# Altium integrated library Altera FLEX 10K.IntLib: 292 symbols (part 14 of 37)
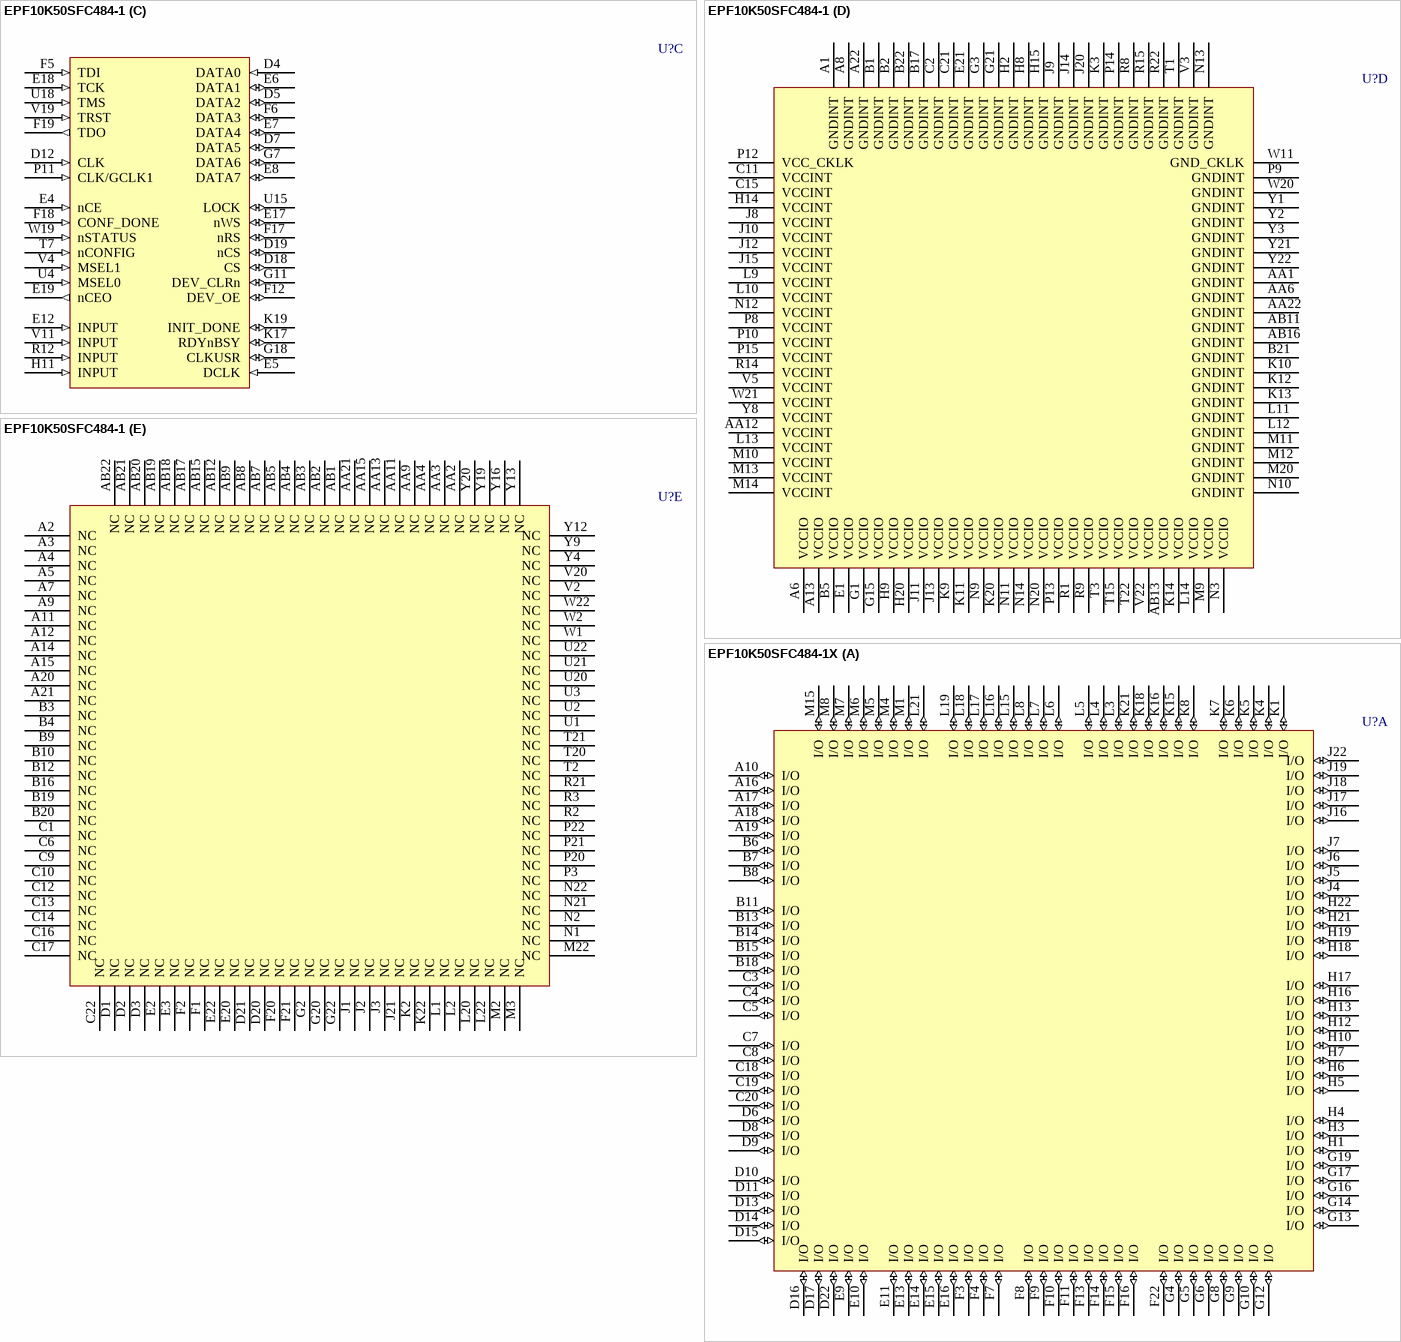
[diagram p411: symbols EPF10K50SFC484-1 to EPF10K50SFC484-1X]

## EPF10K50SFC484-1
designator U?
FLEX EPF10K50S 2.5V Embedded PLD, 254 User IO Pins, 484-Pin FBGA, Speed Grade 1, Commercial Grade; Published: 17-Jul-2002; LatestRevisionDate: 13-Apr-2006; LatestRevisionNote: IPC-7351 Footprint Added.; DatasheetVersion: ver4.2, Jan-2003; PackageVersion: ver16.0, Dec-2009; PackageReference: FBGA484; Publisher: Altium Limited; PackageDescription: 484-Ball FineLine Ball Grid Array (FBGA484) - Flip Chip; Code_JEDEC: MS-034-AAJ-1; Code_IPC: BGA100P22X22-484; ComponentLink1Description: Manufacturer Link; ComponentLink1URL: http://www.altera.com/products/devices/flex10k/f10-index.html; ComponentLink2Description: Datasheet; ComponentLink2URL: http://www.altera.com/literature/ds/dsf10ke.pdf
footprint FBGA484 (BGA, 484-Leads, Body 23x23mm, Pitch 1mm)
3D model EPF10K50S-FBGA484 (484-Ball FineLine Ball Grid Array (FBGA484) - Flip Chip)
part A pins: A10 I/O (io), A16 I/O (io), A17 I/O (io), A18 I/O (io), A19 I/O (io), B6 I/O (io), B7 I/O (io), B8 I/O (io), B11 I/O (io), B13 I/O (io), B14 I/O (io), B15 I/O (io), B18 I/O (io), C3 I/O (io), C4 I/O (io), C5 I/O (io), C7 I/O (io), C8 I/O (io), C18 I/O (io), C19 I/O (io), C20 I/O (io), D6 I/O (io), D8 I/O (io), D9 I/O (io), D10 I/O (io), D11 I/O (io), D13 I/O (io), D14 I/O (io), D15 I/O (io), D16 I/O (io), D17 I/O (io), D22 I/O (io), E9 I/O (io), E10 I/O (io), E11 I/O (io), E13 I/O (io), E14 I/O (io), E15 I/O (io), E16 I/O (io), F3 I/O (io), F4 I/O (io), F7 I/O (io), F8 I/O (io), F9 I/O (io), F10 I/O (io), F11 I/O (io), F13 I/O (io), F14 I/O (io), F15 I/O (io), F16 I/O (io), F22 I/O (io), G4 I/O (io), G5 I/O (io), G6 I/O (io), G8 I/O (io), G9 I/O (io), G10 I/O (io), G12 I/O (io), G13 I/O (io), G14 I/O (io), G16 I/O (io), G17 I/O (io), G19 I/O (io), H1 I/O (io), H3 I/O (io), H4 I/O (io), H5 I/O (io), H6 I/O (io), H7 I/O (io), H10 I/O (io), H12 I/O (io), H13 I/O (io), H16 I/O (io), H17 I/O (io), H18 I/O (io), H19 I/O (io), H21 I/O (io), H22 I/O (io), J4 I/O (io), J5 I/O (io), J6 I/O (io), J7 I/O (io), J16 I/O (io), J17 I/O (io), J18 I/O (io), J19 I/O (io), J22 I/O (io), K1 I/O (io), K4 I/O (io), K5 I/O (io), K6 I/O (io), K7 I/O (io), K8 I/O (io), K15 I/O (io), K16 I/O (io), K18 I/O (io), K21 I/O (io), L3 I/O (io), L4 I/O (io), L5 I/O (io), L6 I/O (io), L7 I/O (io), L8 I/O (io), L15 I/O (io), L16 I/O (io), L17 I/O (io), L18 I/O (io), L19 I/O (io), L21 I/O (io), M1 I/O (io), M4 I/O (io), M5 I/O (io), M6 I/O (io), M7 I/O (io), M8 I/O (io), M15 I/O (io)
part B pins: AA5 I/O (io), AA7 I/O (io), AA8 I/O (io), AA10 I/O (io), AA14 I/O (io), AA16 I/O (io), AA17 I/O (io), AA18 I/O (io), AA19 I/O (io), AA20 I/O (io), AB6 I/O (io), AB10 I/O (io), AB14 I/O (io), M16 I/O (io), M17 I/O (io), M18 I/O (io), M19 I/O (io), M21 I/O (io), N4 I/O (io), N5 I/O (io), N6 I/O (io), N7 I/O (io), N8 I/O (io), N15 I/O (io), N16 I/O (io), N17 I/O (io), N18 I/O (io), N19 I/O (io), P1 I/O (io), P2 I/O (io), P4 I/O (io), P5 I/O (io), P6 I/O (io), P7 I/O (io), P16 I/O (io), P17 I/O (io), P18 I/O (io), P19 I/O (io), R4 I/O (io), R5 I/O (io), R6 I/O (io), R7 I/O (io), R10 I/O (io), R11 I/O (io), R13 I/O (io), R16 I/O (io), R17 I/O (io), R18 I/O (io), R19 I/O (io), R20 I/O (io), T4 I/O (io), T5 I/O (io), T6 I/O (io), T8 I/O (io), T9 I/O (io), T10 I/O (io), T11 I/O (io), T12 I/O (io), T13 I/O (io), T14 I/O (io), T16 I/O (io), T17 I/O (io), T18 I/O (io), T19 I/O (io), U5 I/O (io), U6 I/O (io), U7 I/O (io), U8 I/O (io), U9 I/O (io), U10 I/O (io), U11 I/O (io), U12 I/O (io), U13 I/O (io), U14 I/O (io), U16 I/O (io), U17 I/O (io), U19 I/O (io), V1 I/O (io), V6 I/O (io), V7 I/O (io), V8 I/O (io), V9 I/O (io), V10 I/O (io), V12 I/O (io), V13 I/O (io), V14 I/O (io), V15 I/O (io), V16 I/O (io), V17 I/O (io), V18 I/O (io), V21 I/O (io), W3 I/O (io), W4 I/O (io), W5 I/O (io), W6 I/O (io), W7 I/O (io), W8 I/O (io), W9 I/O (io), W10 I/O (io), W12 I/O (io), W13 I/O (io), W14 I/O (io), W15 I/O (io), W16 I/O (io), W17 I/O (io), W18 I/O (io), Y5 I/O (io), Y6 I/O (io), Y7 I/O (io), Y10 I/O (io), Y11 I/O (io), Y14 I/O (io), Y15 I/O (io), Y17 I/O (io), Y18 I/O (io)
part C pins: D4 DATA0 (in), D5 DATA2 (io), D7 DATA5 (io), D12 CLK (in), D18 CS (io), D19 nCS (io), E4 nCE (in), E5 DCLK (in), E6 DATA1 (io), E7 DATA4 (io), E8 DATA7 (io), E12 INPUT (in), E17 nWS (io), E18 TCK (in), E19 nCEO (out), F5 TDI (in), F6 DATA3 (io), F12 DEV_OE (io), F17 nRS (io), F18 CONF_DONE (in), F19 TDO (out), G7 DATA6 (io), G11 DEV_CLRn (io), G18 CLKUSR (io), H11 INPUT (in), K17 RDYnBSY (io), K19 INIT_DONE (io), P11 CLK/GCLK1 (in), R12 INPUT (in), T7 nCONFIG (in), U4 MSEL0 (in), U15 LOCK (io), U18 TMS (in), V4 MSEL1 (in), V11 INPUT (in), V19 TRST (in), W19 nSTATUS (in)
part D pins: A1 GNDINT (power), A6 VCCIO (power), A8 GNDINT (power), A13 VCCIO (power), A22 GNDINT (power), AA1 GNDINT (power), AA6 GNDINT (power), AA12 VCCINT (power), AA22 GNDINT (power), AB11 GNDINT (power), AB13 VCCIO (power), AB16 GNDINT (power), B1 GNDINT (power), B2 GNDINT (power), B5 VCCIO (power), B17 GNDINT (power), B21 GNDINT (power), B22 GNDINT (power), C2 GNDINT (power), C11 VCCINT (power), C15 VCCINT (power), C21 GNDINT (power), E1 VCCIO (power), E21 GNDINT (power), G1 VCCIO (power), G3 GNDINT (power), G15 VCCIO (power), G21 GNDINT (power), H2 GNDINT (power), H8 GNDINT (power), H9 VCCIO (power), H14 VCCINT (power), H15 GNDINT (power), H20 VCCIO (power), J8 VCCINT (power), J9 GNDINT (power), J10 VCCINT (power), J11 VCCIO (power), J12 VCCINT (power), J13 VCCIO (power), J14 GNDINT (power), J15 VCCINT (power), J20 GNDINT (power), K3 GNDINT (power), K9 VCCIO (power), K10 GNDINT (power), K11 VCCIO (power), K12 GNDINT (power), K13 GNDINT (power), K14 VCCIO (power), K20 VCCIO (power), L9 VCCINT (power), L10 VCCINT (power), L11 GNDINT (power), L12 GNDINT (power), L13 VCCINT (power), L14 VCCIO (power), M9 VCCIO (power), M10 VCCINT (power), M11 GNDINT (power), M12 GNDINT (power), M13 VCCINT (power), M14 VCCINT (power), M20 GNDINT (power), N3 VCCIO (power), N9 VCCIO (power), N10 GNDINT (power), N11 VCCIO (power), N12 VCCINT (power), N13 GNDINT (power), N14 VCCIO (power), N20 VCCIO (power), P8 VCCINT (power), P9 GNDINT (power), P10 VCCINT (power), P12 VCC_CKLK (power), P13 VCCIO (power), P14 GNDINT (power), P15 VCCINT (power), R1 VCCIO (power), R8 GNDINT (power), R9 VCCIO (power), R14 VCCINT (power), R15 GNDINT (power), R22 GNDINT (power), T1 GNDINT (power), T3 VCCIO (power), T15 VCCIO (power), T22 VCCIO (power), V3 GNDINT (power), V5 VCCINT (power), V22 VCCIO (power), W11 GND_CKLK (power), W20 GNDINT (power), W21 VCCINT (power), Y1 GNDINT (power), Y2 GNDINT (power), Y3 GNDINT (power), Y8 VCCINT (power), Y21 GNDINT (power), Y22 GNDINT (power)
part E pins: A2 NC, A3 NC, A4 NC, A5 NC, A7 NC, A9 NC, A11 NC, A12 NC, A14 NC, A15 NC, A20 NC, A21 NC, AA2 NC, AA3 NC, AA4 NC, AA9 NC, AA11 NC, AA13 NC, AA15 NC, AA21 NC, AB1 NC, AB2 NC, AB3 NC, AB4 NC, AB5 NC, AB7 NC, AB8 NC, AB9 NC, AB12 NC, AB15 NC, AB17 NC, AB18 NC, AB19 NC, AB20 NC, AB21 NC, AB22 NC, B3 NC, B4 NC, B9 NC, B10 NC, B12 NC, B16 NC, B19 NC, B20 NC, C1 NC, C6 NC, C9 NC, C10 NC, C12 NC, C13 NC, C14 NC, C16 NC, C17 NC, C22 NC, D1 NC, D2 NC, D3 NC, D20 NC, D21 NC, E2 NC, E3 NC, E20 NC, E22 NC, F1 NC, F2 NC, F20 NC, F21 NC, G2 NC, G20 NC, G22 NC, J1 NC, J2 NC, J3 NC, J21 NC, K2 NC, K22 NC, L1 NC, L2 NC, L20 NC, L22 NC, M2 NC, M3 NC, M22 NC, N1 NC, N2 NC, N21 NC, N22 NC, P3 NC, P20 NC, P21 NC, P22 NC, R2 NC, R3 NC, R21 NC, T2 NC, T20 NC, T21 NC, U1 NC, U2 NC, U3 NC, U20 NC, U21 NC, U22 NC, V2 NC, V20 NC, W1 NC, W2 NC, W22 NC, Y4 NC, Y9 NC, Y12 NC, Y13 NC, Y16 NC, Y19 NC, Y20 NC

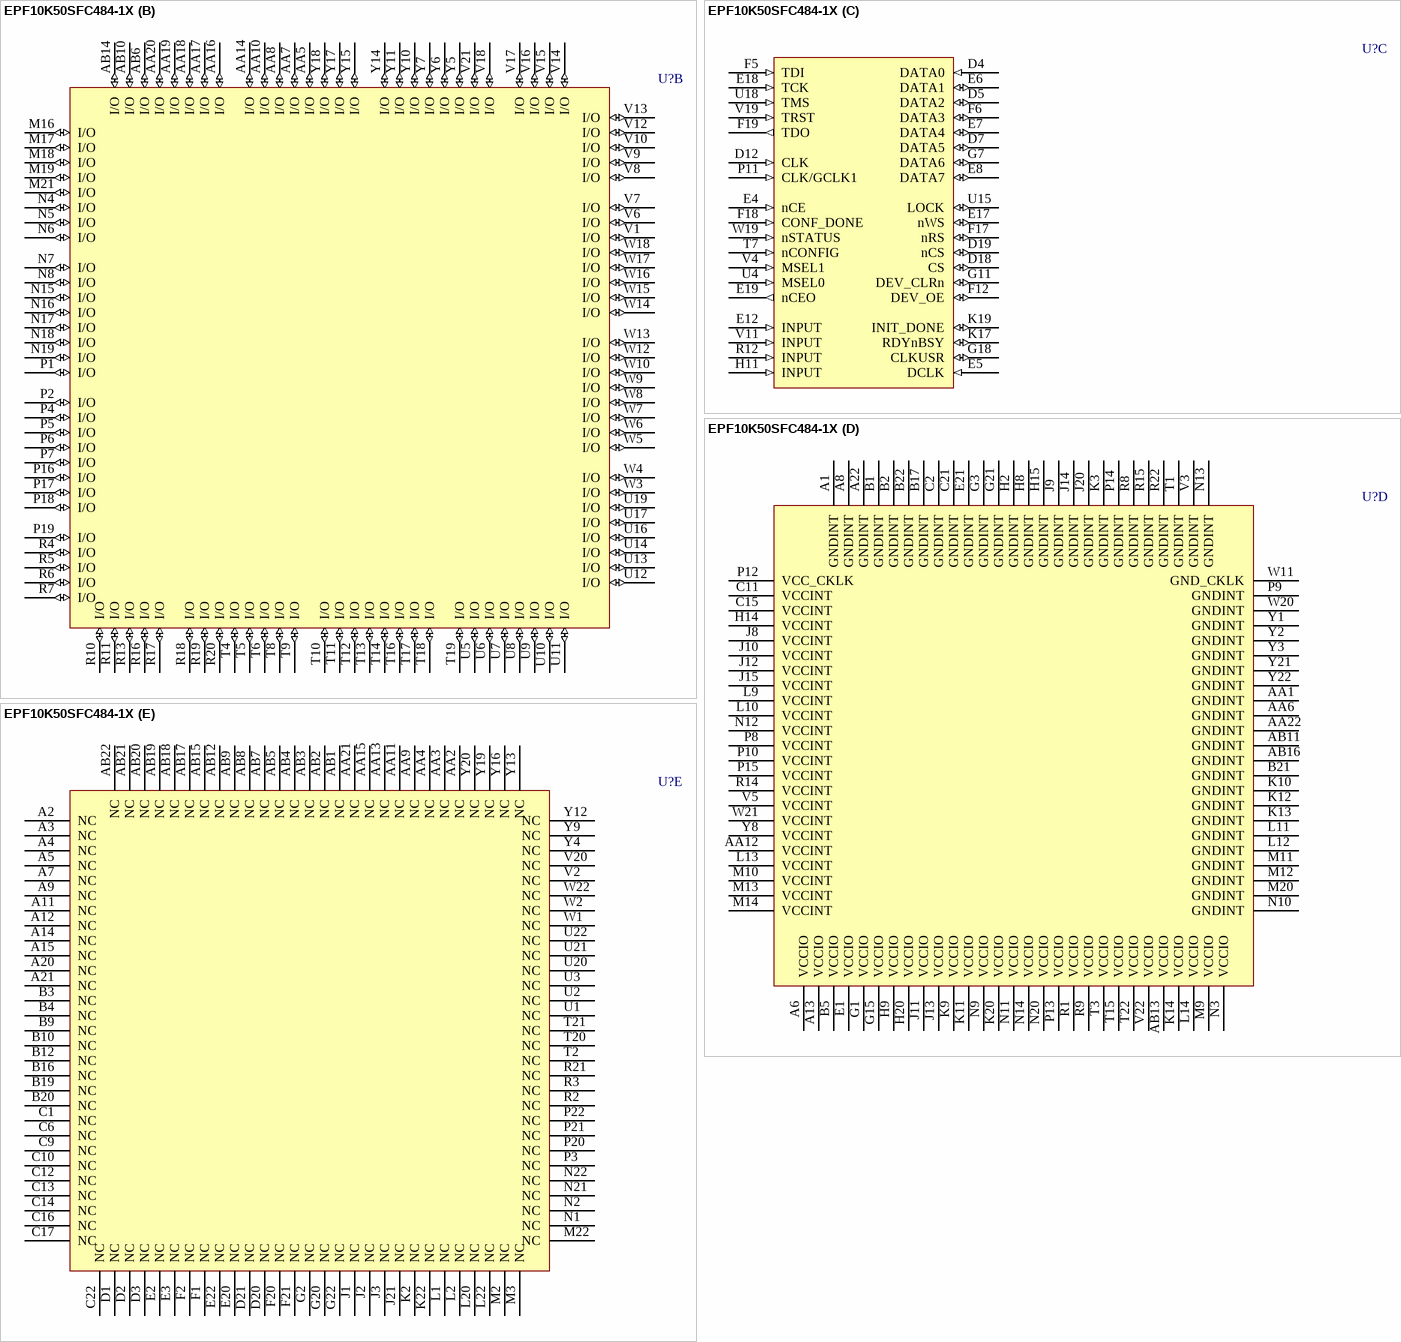
[diagram p135: symbol EPF10K50SFC484-1X]

## EPF10K50SFC484-1X
designator U?
FLEX EPF10K50S 2.5V Embedded PLD, 254 User IO Pins, 484-Pin FBGA, Speed Grade 1, Commercial Grade; Published: 17-Jul-2002; LatestRevisionDate: 13-Apr-2006; LatestRevisionNote: IPC-7351 Footprint Added.; DatasheetVersion: ver4.2, Jan-2003; PackageVersion: ver16.0, Dec-2009; PackageReference: FBGA484; Publisher: Altium Limited; PackageDescription: 484-Ball FineLine Ball Grid Array (FBGA484) - Flip Chip; Code_JEDEC: MS-034-AAJ-1; Code_IPC: BGA100P22X22-484; ComponentLink1Description: Manufacturer Link; ComponentLink1URL: http://www.altera.com/products/devices/flex10k/f10-index.html; ComponentLink2Description: Datasheet; ComponentLink2URL: http://www.altera.com/literature/ds/dsf10ke.pdf
footprint FBGA484 (BGA, 484-Leads, Body 23x23mm, Pitch 1mm)
3D model EPF10K50S-FBGA484 (484-Ball FineLine Ball Grid Array (FBGA484) - Flip Chip)
part A pins: A10 I/O (io), A16 I/O (io), A17 I/O (io), A18 I/O (io), A19 I/O (io), B6 I/O (io), B7 I/O (io), B8 I/O (io), B11 I/O (io), B13 I/O (io), B14 I/O (io), B15 I/O (io), B18 I/O (io), C3 I/O (io), C4 I/O (io), C5 I/O (io), C7 I/O (io), C8 I/O (io), C18 I/O (io), C19 I/O (io), C20 I/O (io), D6 I/O (io), D8 I/O (io), D9 I/O (io), D10 I/O (io), D11 I/O (io), D13 I/O (io), D14 I/O (io), D15 I/O (io), D16 I/O (io), D17 I/O (io), D22 I/O (io), E9 I/O (io), E10 I/O (io), E11 I/O (io), E13 I/O (io), E14 I/O (io), E15 I/O (io), E16 I/O (io), F3 I/O (io), F4 I/O (io), F7 I/O (io), F8 I/O (io), F9 I/O (io), F10 I/O (io), F11 I/O (io), F13 I/O (io), F14 I/O (io), F15 I/O (io), F16 I/O (io), F22 I/O (io), G4 I/O (io), G5 I/O (io), G6 I/O (io), G8 I/O (io), G9 I/O (io), G10 I/O (io), G12 I/O (io), G13 I/O (io), G14 I/O (io), G16 I/O (io), G17 I/O (io), G19 I/O (io), H1 I/O (io), H3 I/O (io), H4 I/O (io), H5 I/O (io), H6 I/O (io), H7 I/O (io), H10 I/O (io), H12 I/O (io), H13 I/O (io), H16 I/O (io), H17 I/O (io), H18 I/O (io), H19 I/O (io), H21 I/O (io), H22 I/O (io), J4 I/O (io), J5 I/O (io), J6 I/O (io), J7 I/O (io), J16 I/O (io), J17 I/O (io), J18 I/O (io), J19 I/O (io), J22 I/O (io), K1 I/O (io), K4 I/O (io), K5 I/O (io), K6 I/O (io), K7 I/O (io), K8 I/O (io), K15 I/O (io), K16 I/O (io), K18 I/O (io), K21 I/O (io), L3 I/O (io), L4 I/O (io), L5 I/O (io), L6 I/O (io), L7 I/O (io), L8 I/O (io), L15 I/O (io), L16 I/O (io), L17 I/O (io), L18 I/O (io), L19 I/O (io), L21 I/O (io), M1 I/O (io), M4 I/O (io), M5 I/O (io), M6 I/O (io), M7 I/O (io), M8 I/O (io), M15 I/O (io)
part B pins: AA5 I/O (io), AA7 I/O (io), AA8 I/O (io), AA10 I/O (io), AA14 I/O (io), AA16 I/O (io), AA17 I/O (io), AA18 I/O (io), AA19 I/O (io), AA20 I/O (io), AB6 I/O (io), AB10 I/O (io), AB14 I/O (io), M16 I/O (io), M17 I/O (io), M18 I/O (io), M19 I/O (io), M21 I/O (io), N4 I/O (io), N5 I/O (io), N6 I/O (io), N7 I/O (io), N8 I/O (io), N15 I/O (io), N16 I/O (io), N17 I/O (io), N18 I/O (io), N19 I/O (io), P1 I/O (io), P2 I/O (io), P4 I/O (io), P5 I/O (io), P6 I/O (io), P7 I/O (io), P16 I/O (io), P17 I/O (io), P18 I/O (io), P19 I/O (io), R4 I/O (io), R5 I/O (io), R6 I/O (io), R7 I/O (io), R10 I/O (io), R11 I/O (io), R13 I/O (io), R16 I/O (io), R17 I/O (io), R18 I/O (io), R19 I/O (io), R20 I/O (io), T4 I/O (io), T5 I/O (io), T6 I/O (io), T8 I/O (io), T9 I/O (io), T10 I/O (io), T11 I/O (io), T12 I/O (io), T13 I/O (io), T14 I/O (io), T16 I/O (io), T17 I/O (io), T18 I/O (io), T19 I/O (io), U5 I/O (io), U6 I/O (io), U7 I/O (io), U8 I/O (io), U9 I/O (io), U10 I/O (io), U11 I/O (io), U12 I/O (io), U13 I/O (io), U14 I/O (io), U16 I/O (io), U17 I/O (io), U19 I/O (io), V1 I/O (io), V6 I/O (io), V7 I/O (io), V8 I/O (io), V9 I/O (io), V10 I/O (io), V12 I/O (io), V13 I/O (io), V14 I/O (io), V15 I/O (io), V16 I/O (io), V17 I/O (io), V18 I/O (io), V21 I/O (io), W3 I/O (io), W4 I/O (io), W5 I/O (io), W6 I/O (io), W7 I/O (io), W8 I/O (io), W9 I/O (io), W10 I/O (io), W12 I/O (io), W13 I/O (io), W14 I/O (io), W15 I/O (io), W16 I/O (io), W17 I/O (io), W18 I/O (io), Y5 I/O (io), Y6 I/O (io), Y7 I/O (io), Y10 I/O (io), Y11 I/O (io), Y14 I/O (io), Y15 I/O (io), Y17 I/O (io), Y18 I/O (io)
part C pins: D4 DATA0 (in), D5 DATA2 (io), D7 DATA5 (io), D12 CLK (in), D18 CS (io), D19 nCS (io), E4 nCE (in), E5 DCLK (in), E6 DATA1 (io), E7 DATA4 (io), E8 DATA7 (io), E12 INPUT (in), E17 nWS (io), E18 TCK (in), E19 nCEO (out), F5 TDI (in), F6 DATA3 (io), F12 DEV_OE (io), F17 nRS (io), F18 CONF_DONE (in), F19 TDO (out), G7 DATA6 (io), G11 DEV_CLRn (io), G18 CLKUSR (io), H11 INPUT (in), K17 RDYnBSY (io), K19 INIT_DONE (io), P11 CLK/GCLK1 (in), R12 INPUT (in), T7 nCONFIG (in), U4 MSEL0 (in), U15 LOCK (io), U18 TMS (in), V4 MSEL1 (in), V11 INPUT (in), V19 TRST (in), W19 nSTATUS (in)
part D pins: A1 GNDINT (power), A6 VCCIO (power), A8 GNDINT (power), A13 VCCIO (power), A22 GNDINT (power), AA1 GNDINT (power), AA6 GNDINT (power), AA12 VCCINT (power), AA22 GNDINT (power), AB11 GNDINT (power), AB13 VCCIO (power), AB16 GNDINT (power), B1 GNDINT (power), B2 GNDINT (power), B5 VCCIO (power), B17 GNDINT (power), B21 GNDINT (power), B22 GNDINT (power), C2 GNDINT (power), C11 VCCINT (power), C15 VCCINT (power), C21 GNDINT (power), E1 VCCIO (power), E21 GNDINT (power), G1 VCCIO (power), G3 GNDINT (power), G15 VCCIO (power), G21 GNDINT (power), H2 GNDINT (power), H8 GNDINT (power), H9 VCCIO (power), H14 VCCINT (power), H15 GNDINT (power), H20 VCCIO (power), J8 VCCINT (power), J9 GNDINT (power), J10 VCCINT (power), J11 VCCIO (power), J12 VCCINT (power), J13 VCCIO (power), J14 GNDINT (power), J15 VCCINT (power), J20 GNDINT (power), K3 GNDINT (power), K9 VCCIO (power), K10 GNDINT (power), K11 VCCIO (power), K12 GNDINT (power), K13 GNDINT (power), K14 VCCIO (power), K20 VCCIO (power), L9 VCCINT (power), L10 VCCINT (power), L11 GNDINT (power), L12 GNDINT (power), L13 VCCINT (power), L14 VCCIO (power), M9 VCCIO (power), M10 VCCINT (power), M11 GNDINT (power), M12 GNDINT (power), M13 VCCINT (power), M14 VCCINT (power), M20 GNDINT (power), N3 VCCIO (power), N9 VCCIO (power), N10 GNDINT (power), N11 VCCIO (power), N12 VCCINT (power), N13 GNDINT (power), N14 VCCIO (power), N20 VCCIO (power), P8 VCCINT (power), P9 GNDINT (power), P10 VCCINT (power), P12 VCC_CKLK (power), P13 VCCIO (power), P14 GNDINT (power), P15 VCCINT (power), R1 VCCIO (power), R8 GNDINT (power), R9 VCCIO (power), R14 VCCINT (power), R15 GNDINT (power), R22 GNDINT (power), T1 GNDINT (power), T3 VCCIO (power), T15 VCCIO (power), T22 VCCIO (power), V3 GNDINT (power), V5 VCCINT (power), V22 VCCIO (power), W11 GND_CKLK (power), W20 GNDINT (power), W21 VCCINT (power), Y1 GNDINT (power), Y2 GNDINT (power), Y3 GNDINT (power), Y8 VCCINT (power), Y21 GNDINT (power), Y22 GNDINT (power)
part E pins: A2 NC, A3 NC, A4 NC, A5 NC, A7 NC, A9 NC, A11 NC, A12 NC, A14 NC, A15 NC, A20 NC, A21 NC, AA2 NC, AA3 NC, AA4 NC, AA9 NC, AA11 NC, AA13 NC, AA15 NC, AA21 NC, AB1 NC, AB2 NC, AB3 NC, AB4 NC, AB5 NC, AB7 NC, AB8 NC, AB9 NC, AB12 NC, AB15 NC, AB17 NC, AB18 NC, AB19 NC, AB20 NC, AB21 NC, AB22 NC, B3 NC, B4 NC, B9 NC, B10 NC, B12 NC, B16 NC, B19 NC, B20 NC, C1 NC, C6 NC, C9 NC, C10 NC, C12 NC, C13 NC, C14 NC, C16 NC, C17 NC, C22 NC, D1 NC, D2 NC, D3 NC, D20 NC, D21 NC, E2 NC, E3 NC, E20 NC, E22 NC, F1 NC, F2 NC, F20 NC, F21 NC, G2 NC, G20 NC, G22 NC, J1 NC, J2 NC, J3 NC, J21 NC, K2 NC, K22 NC, L1 NC, L2 NC, L20 NC, L22 NC, M2 NC, M3 NC, M22 NC, N1 NC, N2 NC, N21 NC, N22 NC, P3 NC, P20 NC, P21 NC, P22 NC, R2 NC, R3 NC, R21 NC, T2 NC, T20 NC, T21 NC, U1 NC, U2 NC, U3 NC, U20 NC, U21 NC, U22 NC, V2 NC, V20 NC, W1 NC, W2 NC, W22 NC, Y4 NC, Y9 NC, Y12 NC, Y13 NC, Y16 NC, Y19 NC, Y20 NC

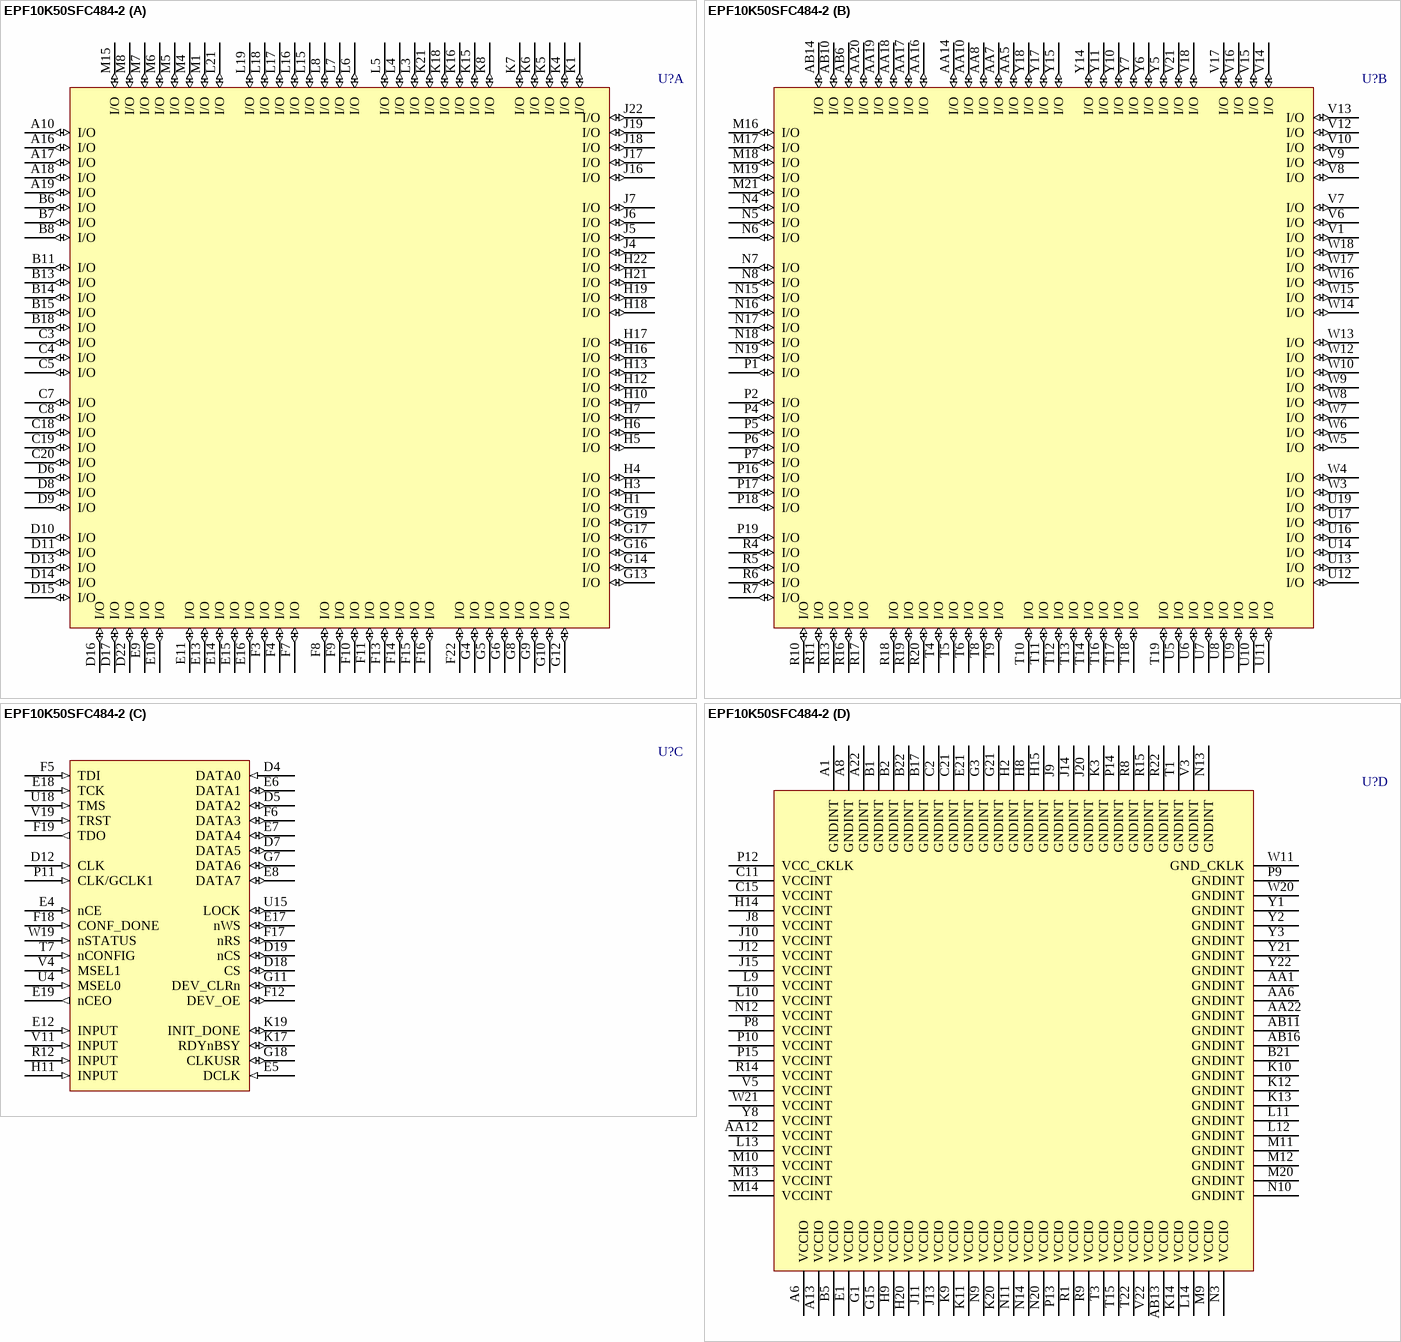
[diagram p136: symbol EPF10K50SFC484-2]

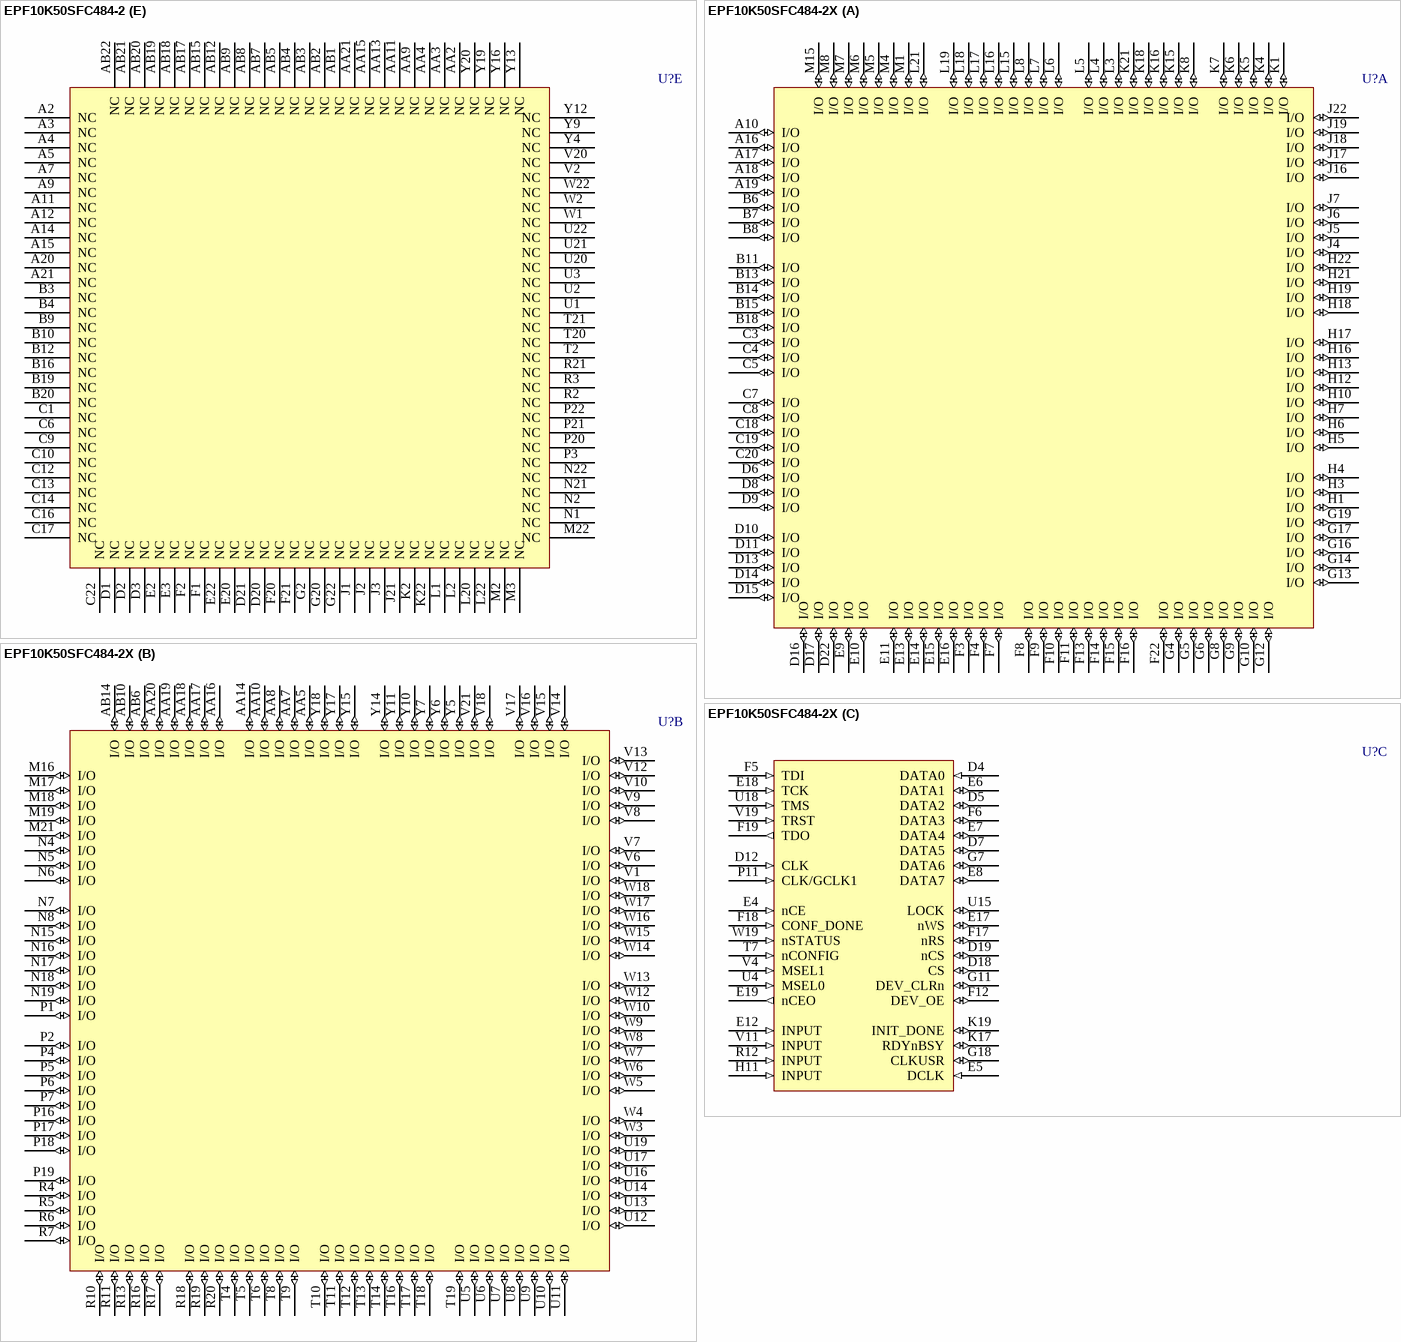
[diagram p137: symbols EPF10K50SFC484-2 to EPF10K50SFC484-2X]

## EPF10K50SFC484-2
designator U?
FLEX EPF10K50S 2.5V Embedded PLD, 254 User IO Pins, 484-Pin FBGA, Speed Grade 2, Commercial Grade; Published: 17-Jul-2002; LatestRevisionDate: 13-Apr-2006; LatestRevisionNote: IPC-7351 Footprint Added.; DatasheetVersion: ver4.2, Jan-2003; PackageVersion: ver16.0, Dec-2009; PackageReference: FBGA484; Publisher: Altium Limited; PackageDescription: 484-Ball FineLine Ball Grid Array (FBGA484) - Flip Chip; Code_JEDEC: MS-034-AAJ-1; Code_IPC: BGA100P22X22-484; ComponentLink1Description: Manufacturer Link; ComponentLink1URL: http://www.altera.com/products/devices/flex10k/f10-index.html; ComponentLink2Description: Datasheet; ComponentLink2URL: http://www.altera.com/literature/ds/dsf10ke.pdf
footprint FBGA484 (BGA, 484-Leads, Body 23x23mm, Pitch 1mm)
3D model EPF10K50S-FBGA484 (484-Ball FineLine Ball Grid Array (FBGA484) - Flip Chip)
part A pins: A10 I/O (io), A16 I/O (io), A17 I/O (io), A18 I/O (io), A19 I/O (io), B6 I/O (io), B7 I/O (io), B8 I/O (io), B11 I/O (io), B13 I/O (io), B14 I/O (io), B15 I/O (io), B18 I/O (io), C3 I/O (io), C4 I/O (io), C5 I/O (io), C7 I/O (io), C8 I/O (io), C18 I/O (io), C19 I/O (io), C20 I/O (io), D6 I/O (io), D8 I/O (io), D9 I/O (io), D10 I/O (io), D11 I/O (io), D13 I/O (io), D14 I/O (io), D15 I/O (io), D16 I/O (io), D17 I/O (io), D22 I/O (io), E9 I/O (io), E10 I/O (io), E11 I/O (io), E13 I/O (io), E14 I/O (io), E15 I/O (io), E16 I/O (io), F3 I/O (io), F4 I/O (io), F7 I/O (io), F8 I/O (io), F9 I/O (io), F10 I/O (io), F11 I/O (io), F13 I/O (io), F14 I/O (io), F15 I/O (io), F16 I/O (io), F22 I/O (io), G4 I/O (io), G5 I/O (io), G6 I/O (io), G8 I/O (io), G9 I/O (io), G10 I/O (io), G12 I/O (io), G13 I/O (io), G14 I/O (io), G16 I/O (io), G17 I/O (io), G19 I/O (io), H1 I/O (io), H3 I/O (io), H4 I/O (io), H5 I/O (io), H6 I/O (io), H7 I/O (io), H10 I/O (io), H12 I/O (io), H13 I/O (io), H16 I/O (io), H17 I/O (io), H18 I/O (io), H19 I/O (io), H21 I/O (io), H22 I/O (io), J4 I/O (io), J5 I/O (io), J6 I/O (io), J7 I/O (io), J16 I/O (io), J17 I/O (io), J18 I/O (io), J19 I/O (io), J22 I/O (io), K1 I/O (io), K4 I/O (io), K5 I/O (io), K6 I/O (io), K7 I/O (io), K8 I/O (io), K15 I/O (io), K16 I/O (io), K18 I/O (io), K21 I/O (io), L3 I/O (io), L4 I/O (io), L5 I/O (io), L6 I/O (io), L7 I/O (io), L8 I/O (io), L15 I/O (io), L16 I/O (io), L17 I/O (io), L18 I/O (io), L19 I/O (io), L21 I/O (io), M1 I/O (io), M4 I/O (io), M5 I/O (io), M6 I/O (io), M7 I/O (io), M8 I/O (io), M15 I/O (io)
part B pins: AA5 I/O (io), AA7 I/O (io), AA8 I/O (io), AA10 I/O (io), AA14 I/O (io), AA16 I/O (io), AA17 I/O (io), AA18 I/O (io), AA19 I/O (io), AA20 I/O (io), AB6 I/O (io), AB10 I/O (io), AB14 I/O (io), M16 I/O (io), M17 I/O (io), M18 I/O (io), M19 I/O (io), M21 I/O (io), N4 I/O (io), N5 I/O (io), N6 I/O (io), N7 I/O (io), N8 I/O (io), N15 I/O (io), N16 I/O (io), N17 I/O (io), N18 I/O (io), N19 I/O (io), P1 I/O (io), P2 I/O (io), P4 I/O (io), P5 I/O (io), P6 I/O (io), P7 I/O (io), P16 I/O (io), P17 I/O (io), P18 I/O (io), P19 I/O (io), R4 I/O (io), R5 I/O (io), R6 I/O (io), R7 I/O (io), R10 I/O (io), R11 I/O (io), R13 I/O (io), R16 I/O (io), R17 I/O (io), R18 I/O (io), R19 I/O (io), R20 I/O (io), T4 I/O (io), T5 I/O (io), T6 I/O (io), T8 I/O (io), T9 I/O (io), T10 I/O (io), T11 I/O (io), T12 I/O (io), T13 I/O (io), T14 I/O (io), T16 I/O (io), T17 I/O (io), T18 I/O (io), T19 I/O (io), U5 I/O (io), U6 I/O (io), U7 I/O (io), U8 I/O (io), U9 I/O (io), U10 I/O (io), U11 I/O (io), U12 I/O (io), U13 I/O (io), U14 I/O (io), U16 I/O (io), U17 I/O (io), U19 I/O (io), V1 I/O (io), V6 I/O (io), V7 I/O (io), V8 I/O (io), V9 I/O (io), V10 I/O (io), V12 I/O (io), V13 I/O (io), V14 I/O (io), V15 I/O (io), V16 I/O (io), V17 I/O (io), V18 I/O (io), V21 I/O (io), W3 I/O (io), W4 I/O (io), W5 I/O (io), W6 I/O (io), W7 I/O (io), W8 I/O (io), W9 I/O (io), W10 I/O (io), W12 I/O (io), W13 I/O (io), W14 I/O (io), W15 I/O (io), W16 I/O (io), W17 I/O (io), W18 I/O (io), Y5 I/O (io), Y6 I/O (io), Y7 I/O (io), Y10 I/O (io), Y11 I/O (io), Y14 I/O (io), Y15 I/O (io), Y17 I/O (io), Y18 I/O (io)
part C pins: D4 DATA0 (in), D5 DATA2 (io), D7 DATA5 (io), D12 CLK (in), D18 CS (io), D19 nCS (io), E4 nCE (in), E5 DCLK (in), E6 DATA1 (io), E7 DATA4 (io), E8 DATA7 (io), E12 INPUT (in), E17 nWS (io), E18 TCK (in), E19 nCEO (out), F5 TDI (in), F6 DATA3 (io), F12 DEV_OE (io), F17 nRS (io), F18 CONF_DONE (in), F19 TDO (out), G7 DATA6 (io), G11 DEV_CLRn (io), G18 CLKUSR (io), H11 INPUT (in), K17 RDYnBSY (io), K19 INIT_DONE (io), P11 CLK/GCLK1 (in), R12 INPUT (in), T7 nCONFIG (in), U4 MSEL0 (in), U15 LOCK (io), U18 TMS (in), V4 MSEL1 (in), V11 INPUT (in), V19 TRST (in), W19 nSTATUS (in)
part D pins: A1 GNDINT (power), A6 VCCIO (power), A8 GNDINT (power), A13 VCCIO (power), A22 GNDINT (power), AA1 GNDINT (power), AA6 GNDINT (power), AA12 VCCINT (power), AA22 GNDINT (power), AB11 GNDINT (power), AB13 VCCIO (power), AB16 GNDINT (power), B1 GNDINT (power), B2 GNDINT (power), B5 VCCIO (power), B17 GNDINT (power), B21 GNDINT (power), B22 GNDINT (power), C2 GNDINT (power), C11 VCCINT (power), C15 VCCINT (power), C21 GNDINT (power), E1 VCCIO (power), E21 GNDINT (power), G1 VCCIO (power), G3 GNDINT (power), G15 VCCIO (power), G21 GNDINT (power), H2 GNDINT (power), H8 GNDINT (power), H9 VCCIO (power), H14 VCCINT (power), H15 GNDINT (power), H20 VCCIO (power), J8 VCCINT (power), J9 GNDINT (power), J10 VCCINT (power), J11 VCCIO (power), J12 VCCINT (power), J13 VCCIO (power), J14 GNDINT (power), J15 VCCINT (power), J20 GNDINT (power), K3 GNDINT (power), K9 VCCIO (power), K10 GNDINT (power), K11 VCCIO (power), K12 GNDINT (power), K13 GNDINT (power), K14 VCCIO (power), K20 VCCIO (power), L9 VCCINT (power), L10 VCCINT (power), L11 GNDINT (power), L12 GNDINT (power), L13 VCCINT (power), L14 VCCIO (power), M9 VCCIO (power), M10 VCCINT (power), M11 GNDINT (power), M12 GNDINT (power), M13 VCCINT (power), M14 VCCINT (power), M20 GNDINT (power), N3 VCCIO (power), N9 VCCIO (power), N10 GNDINT (power), N11 VCCIO (power), N12 VCCINT (power), N13 GNDINT (power), N14 VCCIO (power), N20 VCCIO (power), P8 VCCINT (power), P9 GNDINT (power), P10 VCCINT (power), P12 VCC_CKLK (power), P13 VCCIO (power), P14 GNDINT (power), P15 VCCINT (power), R1 VCCIO (power), R8 GNDINT (power), R9 VCCIO (power), R14 VCCINT (power), R15 GNDINT (power), R22 GNDINT (power), T1 GNDINT (power), T3 VCCIO (power), T15 VCCIO (power), T22 VCCIO (power), V3 GNDINT (power), V5 VCCINT (power), V22 VCCIO (power), W11 GND_CKLK (power), W20 GNDINT (power), W21 VCCINT (power), Y1 GNDINT (power), Y2 GNDINT (power), Y3 GNDINT (power), Y8 VCCINT (power), Y21 GNDINT (power), Y22 GNDINT (power)
part E pins: A2 NC, A3 NC, A4 NC, A5 NC, A7 NC, A9 NC, A11 NC, A12 NC, A14 NC, A15 NC, A20 NC, A21 NC, AA2 NC, AA3 NC, AA4 NC, AA9 NC, AA11 NC, AA13 NC, AA15 NC, AA21 NC, AB1 NC, AB2 NC, AB3 NC, AB4 NC, AB5 NC, AB7 NC, AB8 NC, AB9 NC, AB12 NC, AB15 NC, AB17 NC, AB18 NC, AB19 NC, AB20 NC, AB21 NC, AB22 NC, B3 NC, B4 NC, B9 NC, B10 NC, B12 NC, B16 NC, B19 NC, B20 NC, C1 NC, C6 NC, C9 NC, C10 NC, C12 NC, C13 NC, C14 NC, C16 NC, C17 NC, C22 NC, D1 NC, D2 NC, D3 NC, D20 NC, D21 NC, E2 NC, E3 NC, E20 NC, E22 NC, F1 NC, F2 NC, F20 NC, F21 NC, G2 NC, G20 NC, G22 NC, J1 NC, J2 NC, J3 NC, J21 NC, K2 NC, K22 NC, L1 NC, L2 NC, L20 NC, L22 NC, M2 NC, M3 NC, M22 NC, N1 NC, N2 NC, N21 NC, N22 NC, P3 NC, P20 NC, P21 NC, P22 NC, R2 NC, R3 NC, R21 NC, T2 NC, T20 NC, T21 NC, U1 NC, U2 NC, U3 NC, U20 NC, U21 NC, U22 NC, V2 NC, V20 NC, W1 NC, W2 NC, W22 NC, Y4 NC, Y9 NC, Y12 NC, Y13 NC, Y16 NC, Y19 NC, Y20 NC

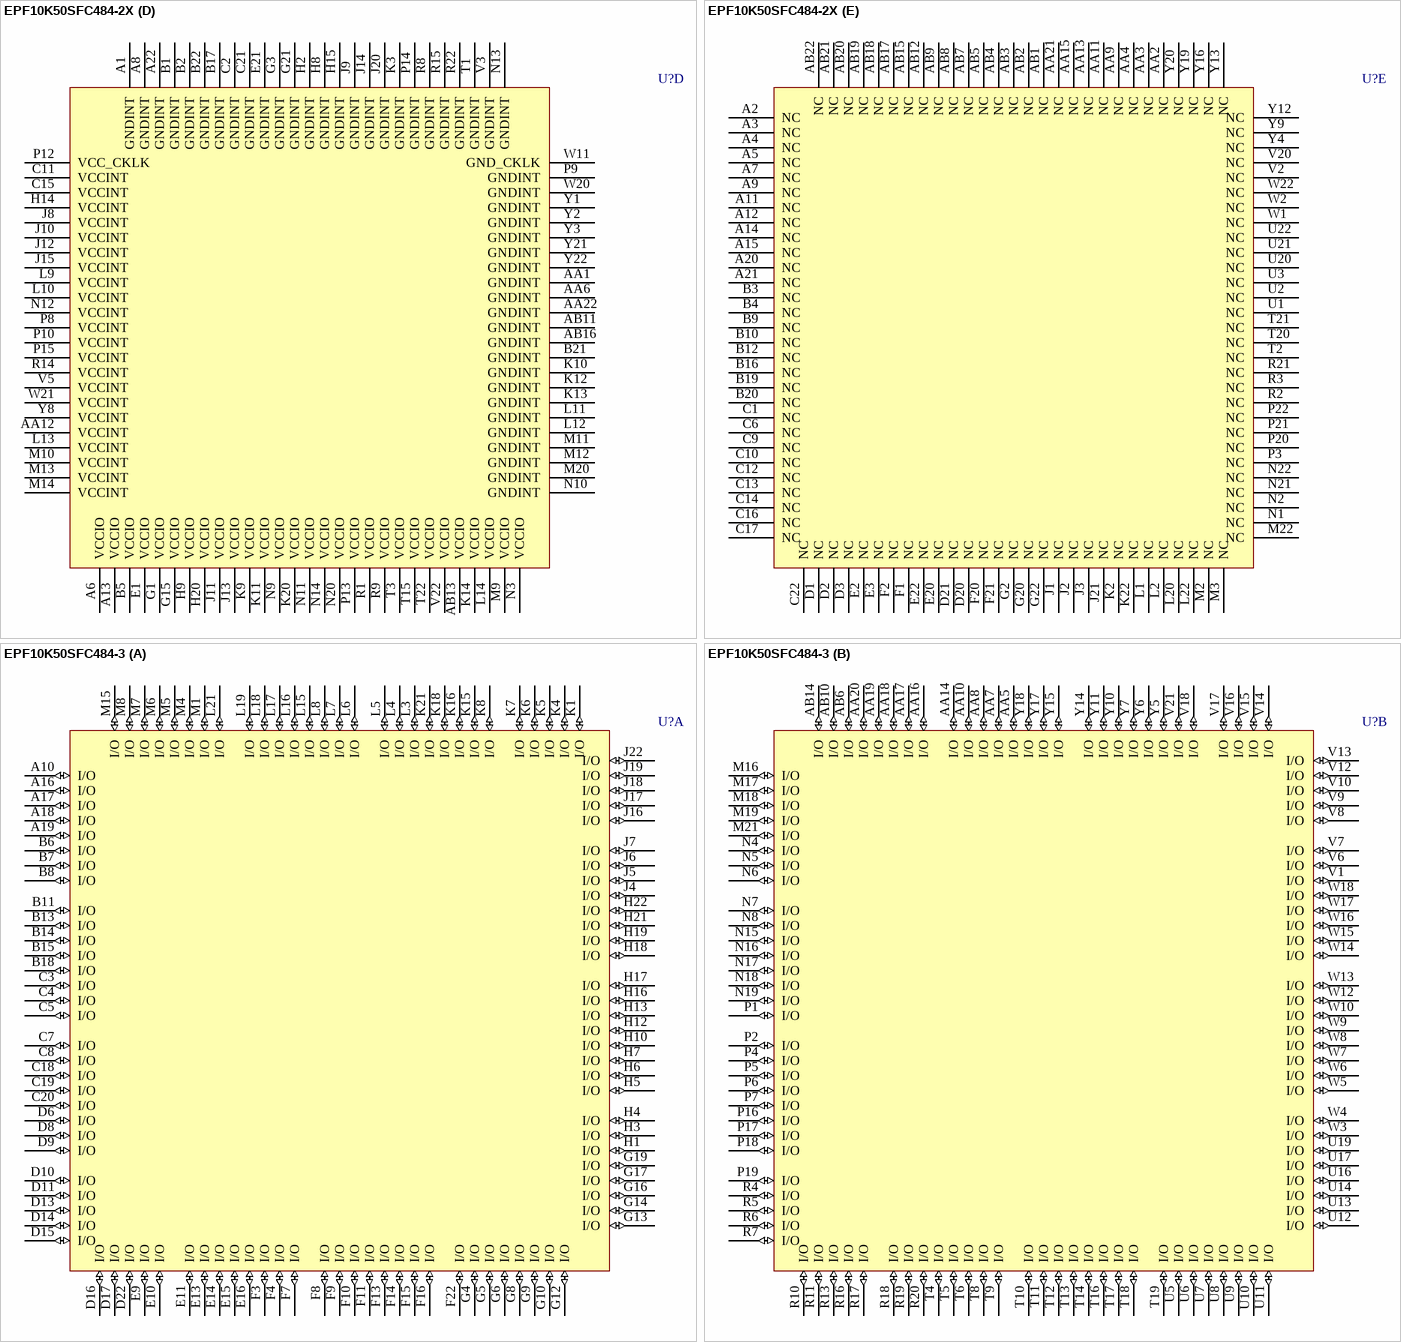
[diagram p138: symbols EPF10K50SFC484-2X to EPF10K50SFC484-3]

## EPF10K50SFC484-2X
designator U?
FLEX EPF10K50S 2.5V Embedded PLD, 254 User IO Pins, 484-Pin FBGA, Speed Grade 2, Commercial Grade; Published: 17-Jul-2002; LatestRevisionDate: 13-Apr-2006; LatestRevisionNote: IPC-7351 Footprint Added.; DatasheetVersion: ver4.2, Jan-2003; PackageVersion: ver16.0, Dec-2009; PackageReference: FBGA484; Publisher: Altium Limited; PackageDescription: 484-Ball FineLine Ball Grid Array (FBGA484) - Flip Chip; Code_JEDEC: MS-034-AAJ-1; Code_IPC: BGA100P22X22-484; ComponentLink1Description: Manufacturer Link; ComponentLink1URL: http://www.altera.com/products/devices/flex10k/f10-index.html; ComponentLink2Description: Datasheet; ComponentLink2URL: http://www.altera.com/literature/ds/dsf10ke.pdf
footprint FBGA484 (BGA, 484-Leads, Body 23x23mm, Pitch 1mm)
3D model EPF10K50S-FBGA484 (484-Ball FineLine Ball Grid Array (FBGA484) - Flip Chip)
part A pins: A10 I/O (io), A16 I/O (io), A17 I/O (io), A18 I/O (io), A19 I/O (io), B6 I/O (io), B7 I/O (io), B8 I/O (io), B11 I/O (io), B13 I/O (io), B14 I/O (io), B15 I/O (io), B18 I/O (io), C3 I/O (io), C4 I/O (io), C5 I/O (io), C7 I/O (io), C8 I/O (io), C18 I/O (io), C19 I/O (io), C20 I/O (io), D6 I/O (io), D8 I/O (io), D9 I/O (io), D10 I/O (io), D11 I/O (io), D13 I/O (io), D14 I/O (io), D15 I/O (io), D16 I/O (io), D17 I/O (io), D22 I/O (io), E9 I/O (io), E10 I/O (io), E11 I/O (io), E13 I/O (io), E14 I/O (io), E15 I/O (io), E16 I/O (io), F3 I/O (io), F4 I/O (io), F7 I/O (io), F8 I/O (io), F9 I/O (io), F10 I/O (io), F11 I/O (io), F13 I/O (io), F14 I/O (io), F15 I/O (io), F16 I/O (io), F22 I/O (io), G4 I/O (io), G5 I/O (io), G6 I/O (io), G8 I/O (io), G9 I/O (io), G10 I/O (io), G12 I/O (io), G13 I/O (io), G14 I/O (io), G16 I/O (io), G17 I/O (io), G19 I/O (io), H1 I/O (io), H3 I/O (io), H4 I/O (io), H5 I/O (io), H6 I/O (io), H7 I/O (io), H10 I/O (io), H12 I/O (io), H13 I/O (io), H16 I/O (io), H17 I/O (io), H18 I/O (io), H19 I/O (io), H21 I/O (io), H22 I/O (io), J4 I/O (io), J5 I/O (io), J6 I/O (io), J7 I/O (io), J16 I/O (io), J17 I/O (io), J18 I/O (io), J19 I/O (io), J22 I/O (io), K1 I/O (io), K4 I/O (io), K5 I/O (io), K6 I/O (io), K7 I/O (io), K8 I/O (io), K15 I/O (io), K16 I/O (io), K18 I/O (io), K21 I/O (io), L3 I/O (io), L4 I/O (io), L5 I/O (io), L6 I/O (io), L7 I/O (io), L8 I/O (io), L15 I/O (io), L16 I/O (io), L17 I/O (io), L18 I/O (io), L19 I/O (io), L21 I/O (io), M1 I/O (io), M4 I/O (io), M5 I/O (io), M6 I/O (io), M7 I/O (io), M8 I/O (io), M15 I/O (io)
part B pins: AA5 I/O (io), AA7 I/O (io), AA8 I/O (io), AA10 I/O (io), AA14 I/O (io), AA16 I/O (io), AA17 I/O (io), AA18 I/O (io), AA19 I/O (io), AA20 I/O (io), AB6 I/O (io), AB10 I/O (io), AB14 I/O (io), M16 I/O (io), M17 I/O (io), M18 I/O (io), M19 I/O (io), M21 I/O (io), N4 I/O (io), N5 I/O (io), N6 I/O (io), N7 I/O (io), N8 I/O (io), N15 I/O (io), N16 I/O (io), N17 I/O (io), N18 I/O (io), N19 I/O (io), P1 I/O (io), P2 I/O (io), P4 I/O (io), P5 I/O (io), P6 I/O (io), P7 I/O (io), P16 I/O (io), P17 I/O (io), P18 I/O (io), P19 I/O (io), R4 I/O (io), R5 I/O (io), R6 I/O (io), R7 I/O (io), R10 I/O (io), R11 I/O (io), R13 I/O (io), R16 I/O (io), R17 I/O (io), R18 I/O (io), R19 I/O (io), R20 I/O (io), T4 I/O (io), T5 I/O (io), T6 I/O (io), T8 I/O (io), T9 I/O (io), T10 I/O (io), T11 I/O (io), T12 I/O (io), T13 I/O (io), T14 I/O (io), T16 I/O (io), T17 I/O (io), T18 I/O (io), T19 I/O (io), U5 I/O (io), U6 I/O (io), U7 I/O (io), U8 I/O (io), U9 I/O (io), U10 I/O (io), U11 I/O (io), U12 I/O (io), U13 I/O (io), U14 I/O (io), U16 I/O (io), U17 I/O (io), U19 I/O (io), V1 I/O (io), V6 I/O (io), V7 I/O (io), V8 I/O (io), V9 I/O (io), V10 I/O (io), V12 I/O (io), V13 I/O (io), V14 I/O (io), V15 I/O (io), V16 I/O (io), V17 I/O (io), V18 I/O (io), V21 I/O (io), W3 I/O (io), W4 I/O (io), W5 I/O (io), W6 I/O (io), W7 I/O (io), W8 I/O (io), W9 I/O (io), W10 I/O (io), W12 I/O (io), W13 I/O (io), W14 I/O (io), W15 I/O (io), W16 I/O (io), W17 I/O (io), W18 I/O (io), Y5 I/O (io), Y6 I/O (io), Y7 I/O (io), Y10 I/O (io), Y11 I/O (io), Y14 I/O (io), Y15 I/O (io), Y17 I/O (io), Y18 I/O (io)
part C pins: D4 DATA0 (in), D5 DATA2 (io), D7 DATA5 (io), D12 CLK (in), D18 CS (io), D19 nCS (io), E4 nCE (in), E5 DCLK (in), E6 DATA1 (io), E7 DATA4 (io), E8 DATA7 (io), E12 INPUT (in), E17 nWS (io), E18 TCK (in), E19 nCEO (out), F5 TDI (in), F6 DATA3 (io), F12 DEV_OE (io), F17 nRS (io), F18 CONF_DONE (in), F19 TDO (out), G7 DATA6 (io), G11 DEV_CLRn (io), G18 CLKUSR (io), H11 INPUT (in), K17 RDYnBSY (io), K19 INIT_DONE (io), P11 CLK/GCLK1 (in), R12 INPUT (in), T7 nCONFIG (in), U4 MSEL0 (in), U15 LOCK (io), U18 TMS (in), V4 MSEL1 (in), V11 INPUT (in), V19 TRST (in), W19 nSTATUS (in)
part D pins: A1 GNDINT (power), A6 VCCIO (power), A8 GNDINT (power), A13 VCCIO (power), A22 GNDINT (power), AA1 GNDINT (power), AA6 GNDINT (power), AA12 VCCINT (power), AA22 GNDINT (power), AB11 GNDINT (power), AB13 VCCIO (power), AB16 GNDINT (power), B1 GNDINT (power), B2 GNDINT (power), B5 VCCIO (power), B17 GNDINT (power), B21 GNDINT (power), B22 GNDINT (power), C2 GNDINT (power), C11 VCCINT (power), C15 VCCINT (power), C21 GNDINT (power), E1 VCCIO (power), E21 GNDINT (power), G1 VCCIO (power), G3 GNDINT (power), G15 VCCIO (power), G21 GNDINT (power), H2 GNDINT (power), H8 GNDINT (power), H9 VCCIO (power), H14 VCCINT (power), H15 GNDINT (power), H20 VCCIO (power), J8 VCCINT (power), J9 GNDINT (power), J10 VCCINT (power), J11 VCCIO (power), J12 VCCINT (power), J13 VCCIO (power), J14 GNDINT (power), J15 VCCINT (power), J20 GNDINT (power), K3 GNDINT (power), K9 VCCIO (power), K10 GNDINT (power), K11 VCCIO (power), K12 GNDINT (power), K13 GNDINT (power), K14 VCCIO (power), K20 VCCIO (power), L9 VCCINT (power), L10 VCCINT (power), L11 GNDINT (power), L12 GNDINT (power), L13 VCCINT (power), L14 VCCIO (power), M9 VCCIO (power), M10 VCCINT (power), M11 GNDINT (power), M12 GNDINT (power), M13 VCCINT (power), M14 VCCINT (power), M20 GNDINT (power), N3 VCCIO (power), N9 VCCIO (power), N10 GNDINT (power), N11 VCCIO (power), N12 VCCINT (power), N13 GNDINT (power), N14 VCCIO (power), N20 VCCIO (power), P8 VCCINT (power), P9 GNDINT (power), P10 VCCINT (power), P12 VCC_CKLK (power), P13 VCCIO (power), P14 GNDINT (power), P15 VCCINT (power), R1 VCCIO (power), R8 GNDINT (power), R9 VCCIO (power), R14 VCCINT (power), R15 GNDINT (power), R22 GNDINT (power), T1 GNDINT (power), T3 VCCIO (power), T15 VCCIO (power), T22 VCCIO (power), V3 GNDINT (power), V5 VCCINT (power), V22 VCCIO (power), W11 GND_CKLK (power), W20 GNDINT (power), W21 VCCINT (power), Y1 GNDINT (power), Y2 GNDINT (power), Y3 GNDINT (power), Y8 VCCINT (power), Y21 GNDINT (power), Y22 GNDINT (power)
part E pins: A2 NC, A3 NC, A4 NC, A5 NC, A7 NC, A9 NC, A11 NC, A12 NC, A14 NC, A15 NC, A20 NC, A21 NC, AA2 NC, AA3 NC, AA4 NC, AA9 NC, AA11 NC, AA13 NC, AA15 NC, AA21 NC, AB1 NC, AB2 NC, AB3 NC, AB4 NC, AB5 NC, AB7 NC, AB8 NC, AB9 NC, AB12 NC, AB15 NC, AB17 NC, AB18 NC, AB19 NC, AB20 NC, AB21 NC, AB22 NC, B3 NC, B4 NC, B9 NC, B10 NC, B12 NC, B16 NC, B19 NC, B20 NC, C1 NC, C6 NC, C9 NC, C10 NC, C12 NC, C13 NC, C14 NC, C16 NC, C17 NC, C22 NC, D1 NC, D2 NC, D3 NC, D20 NC, D21 NC, E2 NC, E3 NC, E20 NC, E22 NC, F1 NC, F2 NC, F20 NC, F21 NC, G2 NC, G20 NC, G22 NC, J1 NC, J2 NC, J3 NC, J21 NC, K2 NC, K22 NC, L1 NC, L2 NC, L20 NC, L22 NC, M2 NC, M3 NC, M22 NC, N1 NC, N2 NC, N21 NC, N22 NC, P3 NC, P20 NC, P21 NC, P22 NC, R2 NC, R3 NC, R21 NC, T2 NC, T20 NC, T21 NC, U1 NC, U2 NC, U3 NC, U20 NC, U21 NC, U22 NC, V2 NC, V20 NC, W1 NC, W2 NC, W22 NC, Y4 NC, Y9 NC, Y12 NC, Y13 NC, Y16 NC, Y19 NC, Y20 NC

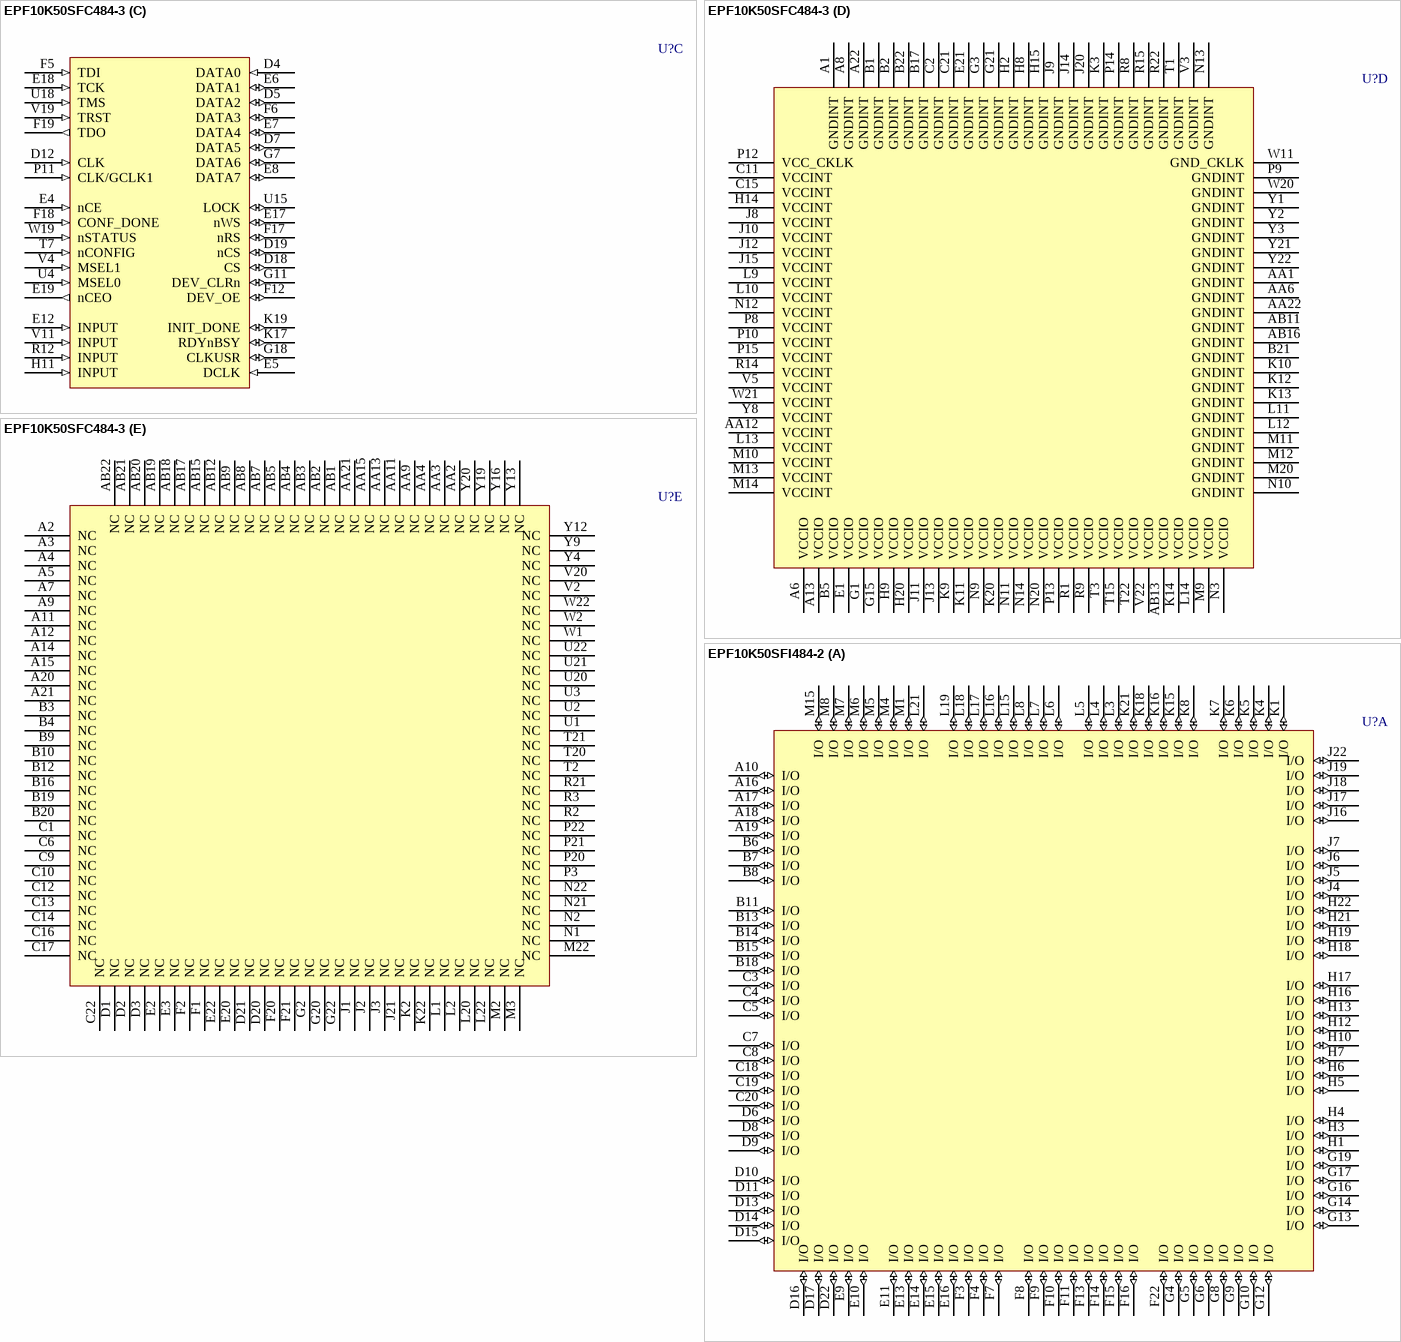
[diagram p139: symbols EPF10K50SFC484-3 to EPF10K50SFI484-2]

## EPF10K50SFC484-3
designator U?
FLEX EPF10K50S 2.5V Embedded PLD, 254 User IO Pins, 484-Pin FBGA, Speed Grade 3, Commercial Grade; Published: 17-Jul-2002; LatestRevisionDate: 13-Apr-2006; LatestRevisionNote: IPC-7351 Footprint Added.; DatasheetVersion: ver4.2, Jan-2003; PackageVersion: ver16.0, Dec-2009; PackageReference: FBGA484; Publisher: Altium Limited; PackageDescription: 484-Ball FineLine Ball Grid Array (FBGA484) - Flip Chip; Code_JEDEC: MS-034-AAJ-1; Code_IPC: BGA100P22X22-484; ComponentLink1Description: Manufacturer Link; ComponentLink1URL: http://www.altera.com/products/devices/flex10k/f10-index.html; ComponentLink2Description: Datasheet; ComponentLink2URL: http://www.altera.com/literature/ds/dsf10ke.pdf
footprint FBGA484 (BGA, 484-Leads, Body 23x23mm, Pitch 1mm)
3D model EPF10K50S-FBGA484 (484-Ball FineLine Ball Grid Array (FBGA484) - Flip Chip)
part A pins: A10 I/O (io), A16 I/O (io), A17 I/O (io), A18 I/O (io), A19 I/O (io), B6 I/O (io), B7 I/O (io), B8 I/O (io), B11 I/O (io), B13 I/O (io), B14 I/O (io), B15 I/O (io), B18 I/O (io), C3 I/O (io), C4 I/O (io), C5 I/O (io), C7 I/O (io), C8 I/O (io), C18 I/O (io), C19 I/O (io), C20 I/O (io), D6 I/O (io), D8 I/O (io), D9 I/O (io), D10 I/O (io), D11 I/O (io), D13 I/O (io), D14 I/O (io), D15 I/O (io), D16 I/O (io), D17 I/O (io), D22 I/O (io), E9 I/O (io), E10 I/O (io), E11 I/O (io), E13 I/O (io), E14 I/O (io), E15 I/O (io), E16 I/O (io), F3 I/O (io), F4 I/O (io), F7 I/O (io), F8 I/O (io), F9 I/O (io), F10 I/O (io), F11 I/O (io), F13 I/O (io), F14 I/O (io), F15 I/O (io), F16 I/O (io), F22 I/O (io), G4 I/O (io), G5 I/O (io), G6 I/O (io), G8 I/O (io), G9 I/O (io), G10 I/O (io), G12 I/O (io), G13 I/O (io), G14 I/O (io), G16 I/O (io), G17 I/O (io), G19 I/O (io), H1 I/O (io), H3 I/O (io), H4 I/O (io), H5 I/O (io), H6 I/O (io), H7 I/O (io), H10 I/O (io), H12 I/O (io), H13 I/O (io), H16 I/O (io), H17 I/O (io), H18 I/O (io), H19 I/O (io), H21 I/O (io), H22 I/O (io), J4 I/O (io), J5 I/O (io), J6 I/O (io), J7 I/O (io), J16 I/O (io), J17 I/O (io), J18 I/O (io), J19 I/O (io), J22 I/O (io), K1 I/O (io), K4 I/O (io), K5 I/O (io), K6 I/O (io), K7 I/O (io), K8 I/O (io), K15 I/O (io), K16 I/O (io), K18 I/O (io), K21 I/O (io), L3 I/O (io), L4 I/O (io), L5 I/O (io), L6 I/O (io), L7 I/O (io), L8 I/O (io), L15 I/O (io), L16 I/O (io), L17 I/O (io), L18 I/O (io), L19 I/O (io), L21 I/O (io), M1 I/O (io), M4 I/O (io), M5 I/O (io), M6 I/O (io), M7 I/O (io), M8 I/O (io), M15 I/O (io)
part B pins: AA5 I/O (io), AA7 I/O (io), AA8 I/O (io), AA10 I/O (io), AA14 I/O (io), AA16 I/O (io), AA17 I/O (io), AA18 I/O (io), AA19 I/O (io), AA20 I/O (io), AB6 I/O (io), AB10 I/O (io), AB14 I/O (io), M16 I/O (io), M17 I/O (io), M18 I/O (io), M19 I/O (io), M21 I/O (io), N4 I/O (io), N5 I/O (io), N6 I/O (io), N7 I/O (io), N8 I/O (io), N15 I/O (io), N16 I/O (io), N17 I/O (io), N18 I/O (io), N19 I/O (io), P1 I/O (io), P2 I/O (io), P4 I/O (io), P5 I/O (io), P6 I/O (io), P7 I/O (io), P16 I/O (io), P17 I/O (io), P18 I/O (io), P19 I/O (io), R4 I/O (io), R5 I/O (io), R6 I/O (io), R7 I/O (io), R10 I/O (io), R11 I/O (io), R13 I/O (io), R16 I/O (io), R17 I/O (io), R18 I/O (io), R19 I/O (io), R20 I/O (io), T4 I/O (io), T5 I/O (io), T6 I/O (io), T8 I/O (io), T9 I/O (io), T10 I/O (io), T11 I/O (io), T12 I/O (io), T13 I/O (io), T14 I/O (io), T16 I/O (io), T17 I/O (io), T18 I/O (io), T19 I/O (io), U5 I/O (io), U6 I/O (io), U7 I/O (io), U8 I/O (io), U9 I/O (io), U10 I/O (io), U11 I/O (io), U12 I/O (io), U13 I/O (io), U14 I/O (io), U16 I/O (io), U17 I/O (io), U19 I/O (io), V1 I/O (io), V6 I/O (io), V7 I/O (io), V8 I/O (io), V9 I/O (io), V10 I/O (io), V12 I/O (io), V13 I/O (io), V14 I/O (io), V15 I/O (io), V16 I/O (io), V17 I/O (io), V18 I/O (io), V21 I/O (io), W3 I/O (io), W4 I/O (io), W5 I/O (io), W6 I/O (io), W7 I/O (io), W8 I/O (io), W9 I/O (io), W10 I/O (io), W12 I/O (io), W13 I/O (io), W14 I/O (io), W15 I/O (io), W16 I/O (io), W17 I/O (io), W18 I/O (io), Y5 I/O (io), Y6 I/O (io), Y7 I/O (io), Y10 I/O (io), Y11 I/O (io), Y14 I/O (io), Y15 I/O (io), Y17 I/O (io), Y18 I/O (io)
part C pins: D4 DATA0 (in), D5 DATA2 (io), D7 DATA5 (io), D12 CLK (in), D18 CS (io), D19 nCS (io), E4 nCE (in), E5 DCLK (in), E6 DATA1 (io), E7 DATA4 (io), E8 DATA7 (io), E12 INPUT (in), E17 nWS (io), E18 TCK (in), E19 nCEO (out), F5 TDI (in), F6 DATA3 (io), F12 DEV_OE (io), F17 nRS (io), F18 CONF_DONE (in), F19 TDO (out), G7 DATA6 (io), G11 DEV_CLRn (io), G18 CLKUSR (io), H11 INPUT (in), K17 RDYnBSY (io), K19 INIT_DONE (io), P11 CLK/GCLK1 (in), R12 INPUT (in), T7 nCONFIG (in), U4 MSEL0 (in), U15 LOCK (io), U18 TMS (in), V4 MSEL1 (in), V11 INPUT (in), V19 TRST (in), W19 nSTATUS (in)
part D pins: A1 GNDINT (power), A6 VCCIO (power), A8 GNDINT (power), A13 VCCIO (power), A22 GNDINT (power), AA1 GNDINT (power), AA6 GNDINT (power), AA12 VCCINT (power), AA22 GNDINT (power), AB11 GNDINT (power), AB13 VCCIO (power), AB16 GNDINT (power), B1 GNDINT (power), B2 GNDINT (power), B5 VCCIO (power), B17 GNDINT (power), B21 GNDINT (power), B22 GNDINT (power), C2 GNDINT (power), C11 VCCINT (power), C15 VCCINT (power), C21 GNDINT (power), E1 VCCIO (power), E21 GNDINT (power), G1 VCCIO (power), G3 GNDINT (power), G15 VCCIO (power), G21 GNDINT (power), H2 GNDINT (power), H8 GNDINT (power), H9 VCCIO (power), H14 VCCINT (power), H15 GNDINT (power), H20 VCCIO (power), J8 VCCINT (power), J9 GNDINT (power), J10 VCCINT (power), J11 VCCIO (power), J12 VCCINT (power), J13 VCCIO (power), J14 GNDINT (power), J15 VCCINT (power), J20 GNDINT (power), K3 GNDINT (power), K9 VCCIO (power), K10 GNDINT (power), K11 VCCIO (power), K12 GNDINT (power), K13 GNDINT (power), K14 VCCIO (power), K20 VCCIO (power), L9 VCCINT (power), L10 VCCINT (power), L11 GNDINT (power), L12 GNDINT (power), L13 VCCINT (power), L14 VCCIO (power), M9 VCCIO (power), M10 VCCINT (power), M11 GNDINT (power), M12 GNDINT (power), M13 VCCINT (power), M14 VCCINT (power), M20 GNDINT (power), N3 VCCIO (power), N9 VCCIO (power), N10 GNDINT (power), N11 VCCIO (power), N12 VCCINT (power), N13 GNDINT (power), N14 VCCIO (power), N20 VCCIO (power), P8 VCCINT (power), P9 GNDINT (power), P10 VCCINT (power), P12 VCC_CKLK (power), P13 VCCIO (power), P14 GNDINT (power), P15 VCCINT (power), R1 VCCIO (power), R8 GNDINT (power), R9 VCCIO (power), R14 VCCINT (power), R15 GNDINT (power), R22 GNDINT (power), T1 GNDINT (power), T3 VCCIO (power), T15 VCCIO (power), T22 VCCIO (power), V3 GNDINT (power), V5 VCCINT (power), V22 VCCIO (power), W11 GND_CKLK (power), W20 GNDINT (power), W21 VCCINT (power), Y1 GNDINT (power), Y2 GNDINT (power), Y3 GNDINT (power), Y8 VCCINT (power), Y21 GNDINT (power), Y22 GNDINT (power)
part E pins: A2 NC, A3 NC, A4 NC, A5 NC, A7 NC, A9 NC, A11 NC, A12 NC, A14 NC, A15 NC, A20 NC, A21 NC, AA2 NC, AA3 NC, AA4 NC, AA9 NC, AA11 NC, AA13 NC, AA15 NC, AA21 NC, AB1 NC, AB2 NC, AB3 NC, AB4 NC, AB5 NC, AB7 NC, AB8 NC, AB9 NC, AB12 NC, AB15 NC, AB17 NC, AB18 NC, AB19 NC, AB20 NC, AB21 NC, AB22 NC, B3 NC, B4 NC, B9 NC, B10 NC, B12 NC, B16 NC, B19 NC, B20 NC, C1 NC, C6 NC, C9 NC, C10 NC, C12 NC, C13 NC, C14 NC, C16 NC, C17 NC, C22 NC, D1 NC, D2 NC, D3 NC, D20 NC, D21 NC, E2 NC, E3 NC, E20 NC, E22 NC, F1 NC, F2 NC, F20 NC, F21 NC, G2 NC, G20 NC, G22 NC, J1 NC, J2 NC, J3 NC, J21 NC, K2 NC, K22 NC, L1 NC, L2 NC, L20 NC, L22 NC, M2 NC, M3 NC, M22 NC, N1 NC, N2 NC, N21 NC, N22 NC, P3 NC, P20 NC, P21 NC, P22 NC, R2 NC, R3 NC, R21 NC, T2 NC, T20 NC, T21 NC, U1 NC, U2 NC, U3 NC, U20 NC, U21 NC, U22 NC, V2 NC, V20 NC, W1 NC, W2 NC, W22 NC, Y4 NC, Y9 NC, Y12 NC, Y13 NC, Y16 NC, Y19 NC, Y20 NC

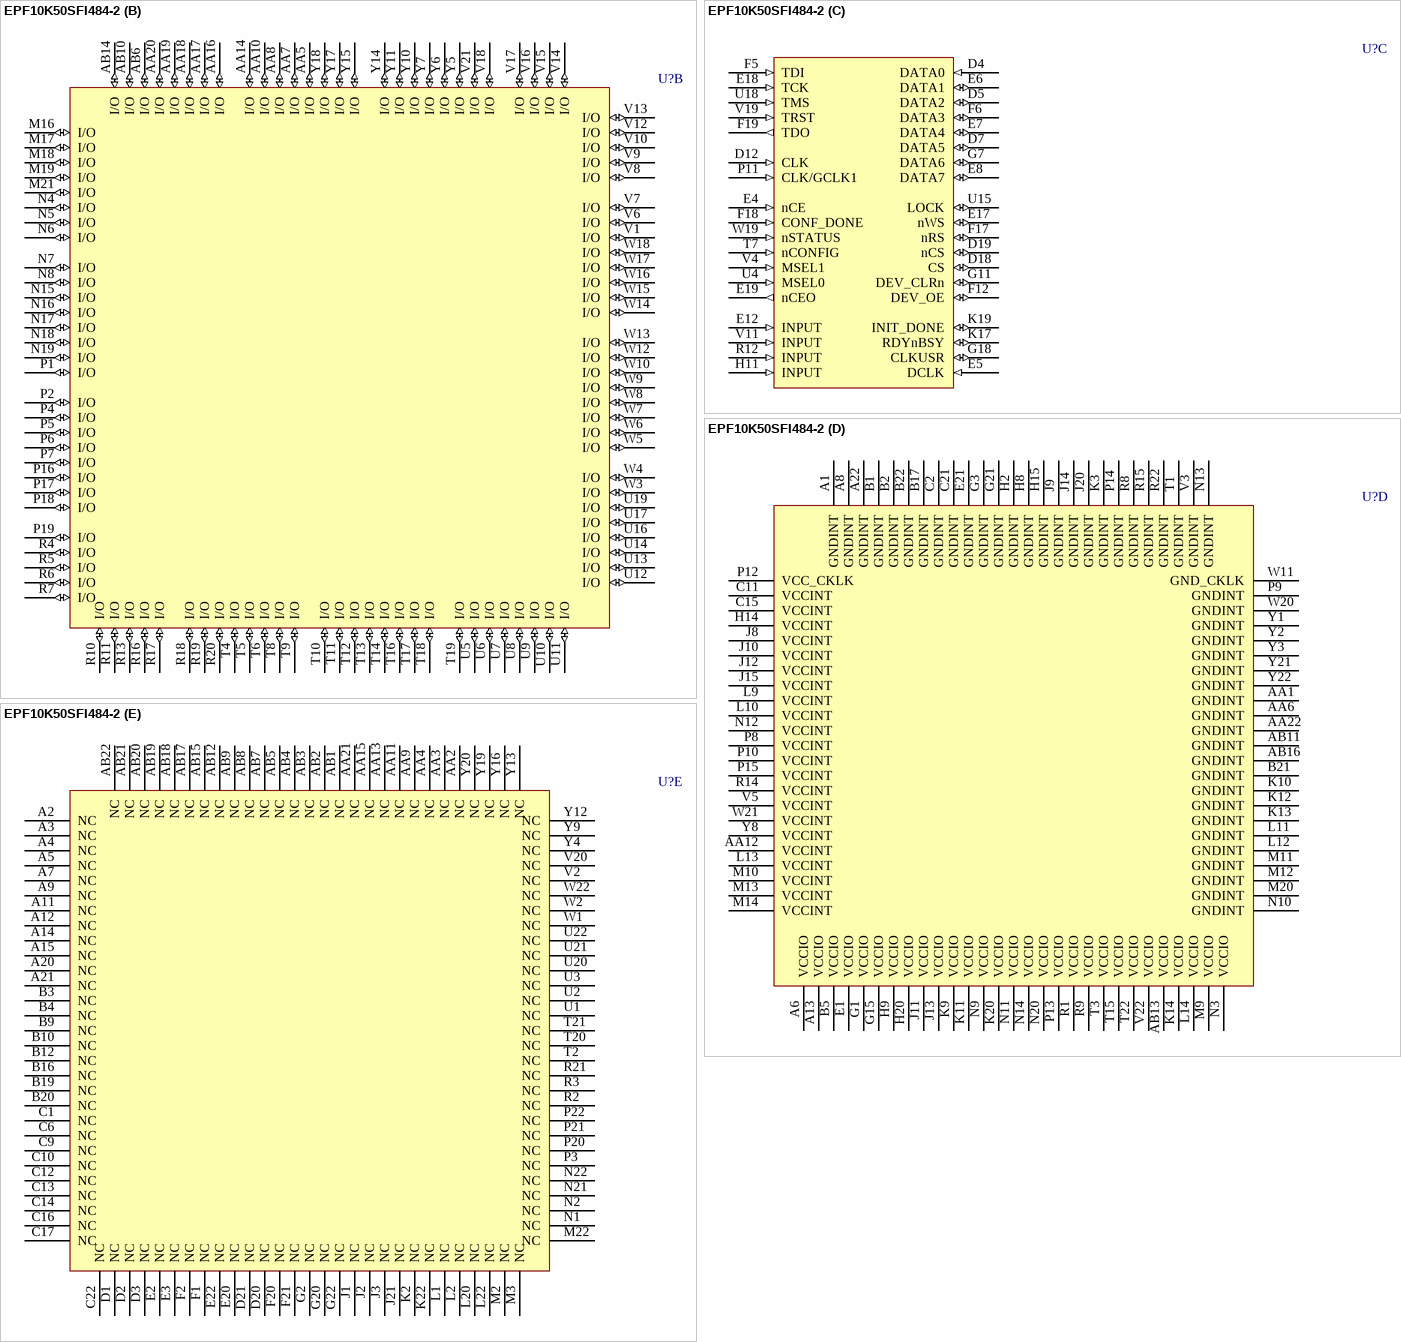
[diagram p140: symbol EPF10K50SFI484-2]

## EPF10K50SFI484-2
designator U?
FLEX EPF10K50S 2.5V Embedded PLD, 254 User IO Pins, 484-Pin FBGA, Speed Grade 2, Industrial Grade; ComponentAvailability: Obsolete; Published: 17-Jul-2002; LatestRevisionDate: 13-Apr-2006; LatestRevisionNote: IPC-7351 Footprint Added.; DatasheetVersion: Jan-2001; PackageVersion: ver16.0, Dec-2009; PackageReference: FBGA484; Publisher: Altium Limited; PackageDescription: 484-Ball FineLine Ball Grid Array (FBGA484) - Flip Chip; Code_JEDEC: MS-034-AAJ-1; Code_IPC: BGA100P22X22-484; ComponentLink1Description: Manufacturer Link; ComponentLink1URL: http://www.altera.com/products/devices/flex10k/f10-index.html; ComponentLink2Description: Datasheet; ComponentLink2URL: http://www.altera.com/literature/ds/dsf10ke.pdf; ComponentLink3Description: Discontinuation Notice; ComponentLink3URL: http://www.altera.com/literature/pcn/pdn0314.pdf
footprint FBGA484 (BGA, 484-Leads, Body 23x23mm, Pitch 1mm)
3D model EPF10K50S-FBGA484 (484-Ball FineLine Ball Grid Array (FBGA484) - Flip Chip)
part A pins: A10 I/O (io), A16 I/O (io), A17 I/O (io), A18 I/O (io), A19 I/O (io), B6 I/O (io), B7 I/O (io), B8 I/O (io), B11 I/O (io), B13 I/O (io), B14 I/O (io), B15 I/O (io), B18 I/O (io), C3 I/O (io), C4 I/O (io), C5 I/O (io), C7 I/O (io), C8 I/O (io), C18 I/O (io), C19 I/O (io), C20 I/O (io), D6 I/O (io), D8 I/O (io), D9 I/O (io), D10 I/O (io), D11 I/O (io), D13 I/O (io), D14 I/O (io), D15 I/O (io), D16 I/O (io), D17 I/O (io), D22 I/O (io), E9 I/O (io), E10 I/O (io), E11 I/O (io), E13 I/O (io), E14 I/O (io), E15 I/O (io), E16 I/O (io), F3 I/O (io), F4 I/O (io), F7 I/O (io), F8 I/O (io), F9 I/O (io), F10 I/O (io), F11 I/O (io), F13 I/O (io), F14 I/O (io), F15 I/O (io), F16 I/O (io), F22 I/O (io), G4 I/O (io), G5 I/O (io), G6 I/O (io), G8 I/O (io), G9 I/O (io), G10 I/O (io), G12 I/O (io), G13 I/O (io), G14 I/O (io), G16 I/O (io), G17 I/O (io), G19 I/O (io), H1 I/O (io), H3 I/O (io), H4 I/O (io), H5 I/O (io), H6 I/O (io), H7 I/O (io), H10 I/O (io), H12 I/O (io), H13 I/O (io), H16 I/O (io), H17 I/O (io), H18 I/O (io), H19 I/O (io), H21 I/O (io), H22 I/O (io), J4 I/O (io), J5 I/O (io), J6 I/O (io), J7 I/O (io), J16 I/O (io), J17 I/O (io), J18 I/O (io), J19 I/O (io), J22 I/O (io), K1 I/O (io), K4 I/O (io), K5 I/O (io), K6 I/O (io), K7 I/O (io), K8 I/O (io), K15 I/O (io), K16 I/O (io), K18 I/O (io), K21 I/O (io), L3 I/O (io), L4 I/O (io), L5 I/O (io), L6 I/O (io), L7 I/O (io), L8 I/O (io), L15 I/O (io), L16 I/O (io), L17 I/O (io), L18 I/O (io), L19 I/O (io), L21 I/O (io), M1 I/O (io), M4 I/O (io), M5 I/O (io), M6 I/O (io), M7 I/O (io), M8 I/O (io), M15 I/O (io)
part B pins: AA5 I/O (io), AA7 I/O (io), AA8 I/O (io), AA10 I/O (io), AA14 I/O (io), AA16 I/O (io), AA17 I/O (io), AA18 I/O (io), AA19 I/O (io), AA20 I/O (io), AB6 I/O (io), AB10 I/O (io), AB14 I/O (io), M16 I/O (io), M17 I/O (io), M18 I/O (io), M19 I/O (io), M21 I/O (io), N4 I/O (io), N5 I/O (io), N6 I/O (io), N7 I/O (io), N8 I/O (io), N15 I/O (io), N16 I/O (io), N17 I/O (io), N18 I/O (io), N19 I/O (io), P1 I/O (io), P2 I/O (io), P4 I/O (io), P5 I/O (io), P6 I/O (io), P7 I/O (io), P16 I/O (io), P17 I/O (io), P18 I/O (io), P19 I/O (io), R4 I/O (io), R5 I/O (io), R6 I/O (io), R7 I/O (io), R10 I/O (io), R11 I/O (io), R13 I/O (io), R16 I/O (io), R17 I/O (io), R18 I/O (io), R19 I/O (io), R20 I/O (io), T4 I/O (io), T5 I/O (io), T6 I/O (io), T8 I/O (io), T9 I/O (io), T10 I/O (io), T11 I/O (io), T12 I/O (io), T13 I/O (io), T14 I/O (io), T16 I/O (io), T17 I/O (io), T18 I/O (io), T19 I/O (io), U5 I/O (io), U6 I/O (io), U7 I/O (io), U8 I/O (io), U9 I/O (io), U10 I/O (io), U11 I/O (io), U12 I/O (io), U13 I/O (io), U14 I/O (io), U16 I/O (io), U17 I/O (io), U19 I/O (io), V1 I/O (io), V6 I/O (io), V7 I/O (io), V8 I/O (io), V9 I/O (io), V10 I/O (io), V12 I/O (io), V13 I/O (io), V14 I/O (io), V15 I/O (io), V16 I/O (io), V17 I/O (io), V18 I/O (io), V21 I/O (io), W3 I/O (io), W4 I/O (io), W5 I/O (io), W6 I/O (io), W7 I/O (io), W8 I/O (io), W9 I/O (io), W10 I/O (io), W12 I/O (io), W13 I/O (io), W14 I/O (io), W15 I/O (io), W16 I/O (io), W17 I/O (io), W18 I/O (io), Y5 I/O (io), Y6 I/O (io), Y7 I/O (io), Y10 I/O (io), Y11 I/O (io), Y14 I/O (io), Y15 I/O (io), Y17 I/O (io), Y18 I/O (io)
part C pins: D4 DATA0 (in), D5 DATA2 (io), D7 DATA5 (io), D12 CLK (in), D18 CS (io), D19 nCS (io), E4 nCE (in), E5 DCLK (in), E6 DATA1 (io), E7 DATA4 (io), E8 DATA7 (io), E12 INPUT (in), E17 nWS (io), E18 TCK (in), E19 nCEO (out), F5 TDI (in), F6 DATA3 (io), F12 DEV_OE (io), F17 nRS (io), F18 CONF_DONE (in), F19 TDO (out), G7 DATA6 (io), G11 DEV_CLRn (io), G18 CLKUSR (io), H11 INPUT (in), K17 RDYnBSY (io), K19 INIT_DONE (io), P11 CLK/GCLK1 (in), R12 INPUT (in), T7 nCONFIG (in), U4 MSEL0 (in), U15 LOCK (io), U18 TMS (in), V4 MSEL1 (in), V11 INPUT (in), V19 TRST (in), W19 nSTATUS (in)
part D pins: A1 GNDINT (power), A6 VCCIO (power), A8 GNDINT (power), A13 VCCIO (power), A22 GNDINT (power), AA1 GNDINT (power), AA6 GNDINT (power), AA12 VCCINT (power), AA22 GNDINT (power), AB11 GNDINT (power), AB13 VCCIO (power), AB16 GNDINT (power), B1 GNDINT (power), B2 GNDINT (power), B5 VCCIO (power), B17 GNDINT (power), B21 GNDINT (power), B22 GNDINT (power), C2 GNDINT (power), C11 VCCINT (power), C15 VCCINT (power), C21 GNDINT (power), E1 VCCIO (power), E21 GNDINT (power), G1 VCCIO (power), G3 GNDINT (power), G15 VCCIO (power), G21 GNDINT (power), H2 GNDINT (power), H8 GNDINT (power), H9 VCCIO (power), H14 VCCINT (power), H15 GNDINT (power), H20 VCCIO (power), J8 VCCINT (power), J9 GNDINT (power), J10 VCCINT (power), J11 VCCIO (power), J12 VCCINT (power), J13 VCCIO (power), J14 GNDINT (power), J15 VCCINT (power), J20 GNDINT (power), K3 GNDINT (power), K9 VCCIO (power), K10 GNDINT (power), K11 VCCIO (power), K12 GNDINT (power), K13 GNDINT (power), K14 VCCIO (power), K20 VCCIO (power), L9 VCCINT (power), L10 VCCINT (power), L11 GNDINT (power), L12 GNDINT (power), L13 VCCINT (power), L14 VCCIO (power), M9 VCCIO (power), M10 VCCINT (power), M11 GNDINT (power), M12 GNDINT (power), M13 VCCINT (power), M14 VCCINT (power), M20 GNDINT (power), N3 VCCIO (power), N9 VCCIO (power), N10 GNDINT (power), N11 VCCIO (power), N12 VCCINT (power), N13 GNDINT (power), N14 VCCIO (power), N20 VCCIO (power), P8 VCCINT (power), P9 GNDINT (power), P10 VCCINT (power), P12 VCC_CKLK (power), P13 VCCIO (power), P14 GNDINT (power), P15 VCCINT (power), R1 VCCIO (power), R8 GNDINT (power), R9 VCCIO (power), R14 VCCINT (power), R15 GNDINT (power), R22 GNDINT (power), T1 GNDINT (power), T3 VCCIO (power), T15 VCCIO (power), T22 VCCIO (power), V3 GNDINT (power), V5 VCCINT (power), V22 VCCIO (power), W11 GND_CKLK (power), W20 GNDINT (power), W21 VCCINT (power), Y1 GNDINT (power), Y2 GNDINT (power), Y3 GNDINT (power), Y8 VCCINT (power), Y21 GNDINT (power), Y22 GNDINT (power)
part E pins: A2 NC, A3 NC, A4 NC, A5 NC, A7 NC, A9 NC, A11 NC, A12 NC, A14 NC, A15 NC, A20 NC, A21 NC, AA2 NC, AA3 NC, AA4 NC, AA9 NC, AA11 NC, AA13 NC, AA15 NC, AA21 NC, AB1 NC, AB2 NC, AB3 NC, AB4 NC, AB5 NC, AB7 NC, AB8 NC, AB9 NC, AB12 NC, AB15 NC, AB17 NC, AB18 NC, AB19 NC, AB20 NC, AB21 NC, AB22 NC, B3 NC, B4 NC, B9 NC, B10 NC, B12 NC, B16 NC, B19 NC, B20 NC, C1 NC, C6 NC, C9 NC, C10 NC, C12 NC, C13 NC, C14 NC, C16 NC, C17 NC, C22 NC, D1 NC, D2 NC, D3 NC, D20 NC, D21 NC, E2 NC, E3 NC, E20 NC, E22 NC, F1 NC, F2 NC, F20 NC, F21 NC, G2 NC, G20 NC, G22 NC, J1 NC, J2 NC, J3 NC, J21 NC, K2 NC, K22 NC, L1 NC, L2 NC, L20 NC, L22 NC, M2 NC, M3 NC, M22 NC, N1 NC, N2 NC, N21 NC, N22 NC, P3 NC, P20 NC, P21 NC, P22 NC, R2 NC, R3 NC, R21 NC, T2 NC, T20 NC, T21 NC, U1 NC, U2 NC, U3 NC, U20 NC, U21 NC, U22 NC, V2 NC, V20 NC, W1 NC, W2 NC, W22 NC, Y4 NC, Y9 NC, Y12 NC, Y13 NC, Y16 NC, Y19 NC, Y20 NC

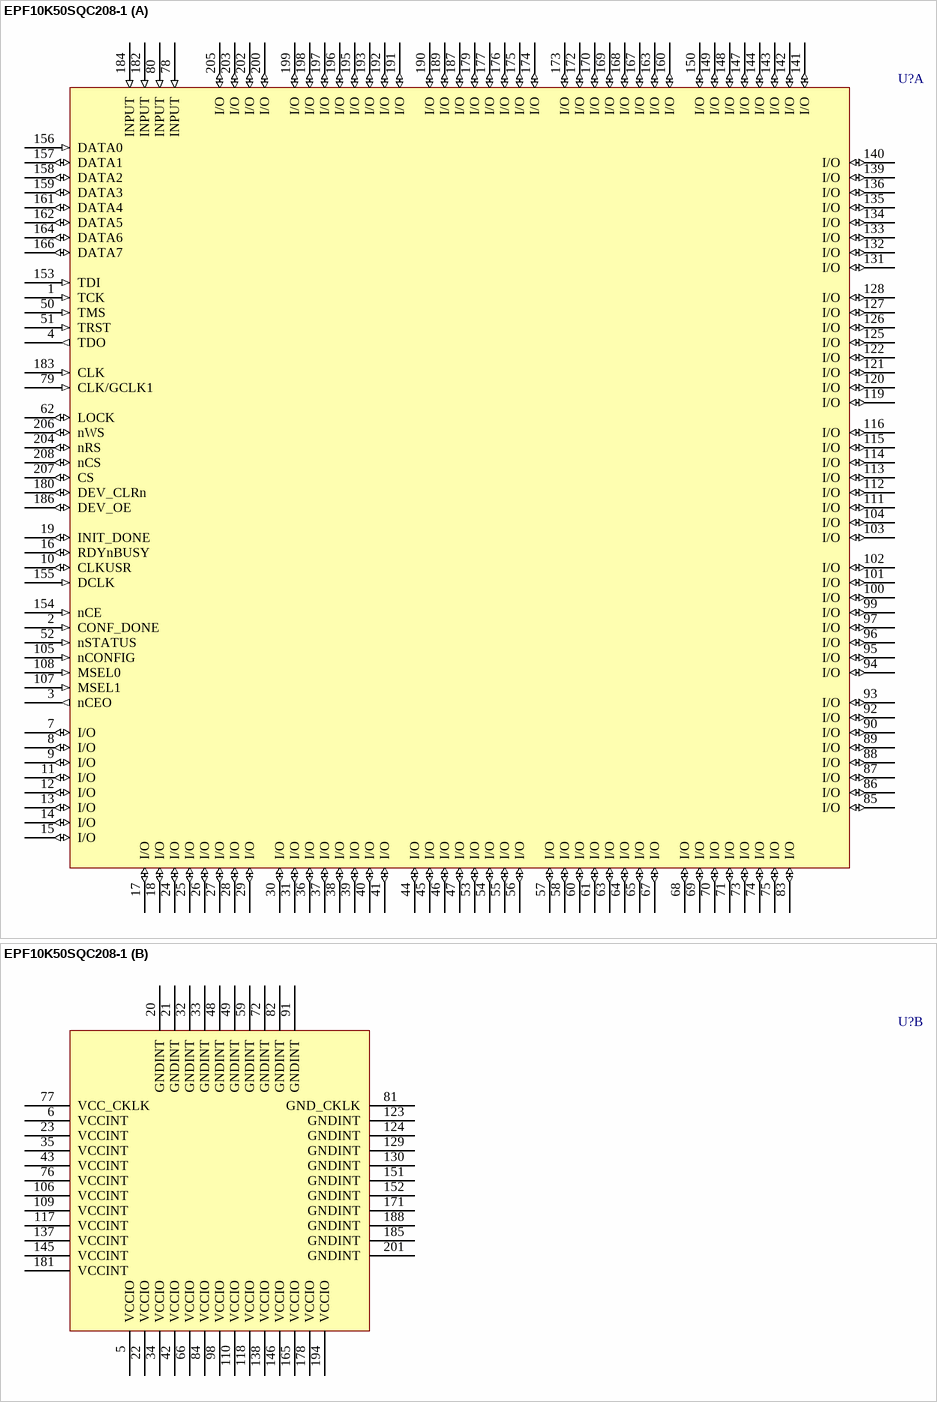
[diagram p141: symbol EPF10K50SQC208-1]

## EPF10K50SQC208-1
designator U?
FLEX EPF10K50S 2.5V Embedded PLD, 147 User IO Pins, 208-Pin PQFP, Speed Grade 1, Commercial Grade; Published: 17-Jul-2002; LatestRevisionDate: 13-Apr-2006; LatestRevisionNote: IPC-7351 Footprint Added.; DatasheetVersion: Jan-2001; PackageVersion: ver15.4, Dec-2008; PackageReference: PQFP208; Publisher: Altium Limited; PackageDescription: 208-Pin Plastic Quad Flat Pack (PQFP208) - Wire Bond; Code_JEDEC: MS-029-FA-1; ComponentLink1Description: Manufacturer Link; ComponentLink1URL: http://www.altera.com/products/devices/flex10k/f10-index.html; ComponentLink2Description: Datasheet; ComponentLink2URL: http://www.altera.com/literature/ds/dsf10ke.pdf
footprint PQFP208_N (Shrink QFP, 208-Leads, Body 28x28mm, Pitch 0.5mm, IPC Medium Density)
footprint PQFP208_L (Shrink QFP, 208-Leads, Body 28x28mm, Pitch 0.5mm, IPC High Density)
footprint PQFP208_M (Shrink QFP, 208-Leads, Body 28x28mm, Pitch 0.5mm, IPC Low Density)
3D model EPF10K50S-PQFP208 (208-Pin Plastic Quad Flat Pack (PQFP208) - Wire Bond)
part A pins: 1 TCK (in), 2 CONF_DONE (in), 3 nCEO (out), 4 TDO (out), 7 I/O (io), 8 I/O (io), 9 I/O (io), 10 CLKUSR (io), 11 I/O (io), 12 I/O (io), 13 I/O (io), 14 I/O (io), 15 I/O (io), 16 RDYnBUSY (io), 17 I/O (io), 18 I/O (io), 19 INIT_DONE (io), 24 I/O (io), 25 I/O (io), 26 I/O (io), 27 I/O (io), 28 I/O (io), 29 I/O (io), 30 I/O (io), 31 I/O (io), 36 I/O (io), 37 I/O (io), 38 I/O (io), 39 I/O (io), 40 I/O (io), 41 I/O (io), 44 I/O (io), 45 I/O (io), 46 I/O (io), 47 I/O (io), 50 TMS (in), 51 TRST (in), 52 nSTATUS (in), 53 I/O (io), 54 I/O (io), 55 I/O (io), 56 I/O (io), 57 I/O (io), 58 I/O (io), 60 I/O (io), 61 I/O (io), 62 LOCK (io), 63 I/O (io), 64 I/O (io), 65 I/O (io), 67 I/O (io), 68 I/O (io), 69 I/O (io), 70 I/O (io), 71 I/O (io), 73 I/O (io), 74 I/O (io), 75 I/O (io), 78 INPUT (in), 79 CLK/GCLK1 (in), 80 INPUT (in), 83 I/O (io), 85 I/O (io), 86 I/O (io), 87 I/O (io), 88 I/O (io), 89 I/O (io), 90 I/O (io), 92 I/O (io), 93 I/O (io), 94 I/O (io), 95 I/O (io), 96 I/O (io), 97 I/O (io), 99 I/O (io), 100 I/O (io), 101 I/O (io), 102 I/O (io), 103 I/O (io), 104 I/O (io), 105 nCONFIG (in), 107 MSEL1 (in), 108 MSEL0 (in), 111 I/O (io), 112 I/O (io), 113 I/O (io), 114 I/O (io), 115 I/O (io), 116 I/O (io), 119 I/O (io), 120 I/O (io), 121 I/O (io), 122 I/O (io), 125 I/O (io), 126 I/O (io), 127 I/O (io), 128 I/O (io), 131 I/O (io), 132 I/O (io), 133 I/O (io), 134 I/O (io), 135 I/O (io), 136 I/O (io), 139 I/O (io), 140 I/O (io), 141 I/O (io), 142 I/O (io), 143 I/O (io), 144 I/O (io), 147 I/O (io), 148 I/O (io), 149 I/O (io), 150 I/O (io), 153 TDI (in), 154 nCE (in), 155 DCLK (in), 156 DATA0 (in), 157 DATA1 (io), 158 DATA2 (io), 159 DATA3 (io), 160 I/O (io), 161 DATA4 (io), 162 DATA5 (io), 163 I/O (io), 164 DATA6 (io), 166 DATA7 (io), 167 I/O (io), 168 I/O (io), 169 I/O (io), 170 I/O (io), 172 I/O (io), 173 I/O (io), 174 I/O (io), 175 I/O (io), 176 I/O (io), 177 I/O (io), 179 I/O (io), 180 DEV_CLRn (io), 182 INPUT (in), 183 CLK (in), 184 INPUT (in), 186 DEV_OE (io), 187 I/O (io), 189 I/O (io), 190 I/O (io), 191 I/O (io), 192 I/O (io), 193 I/O (io), 195 I/O (io), 196 I/O (io), 197 I/O (io), 198 I/O (io), 199 I/O (io), 200 I/O (io), 202 I/O (io), 203 I/O (io), 204 nRS (io), 205 I/O (io), 206 nWS (io), 207 CS (io), 208 nCS (io)
part B pins: 5 VCCIO (power), 6 VCCINT (power), 20 GNDINT (power), 21 GNDINT (power), 22 VCCIO (power), 23 VCCINT (power), 32 GNDINT (power), 33 GNDINT (power), 34 VCCIO (power), 35 VCCINT (power), 42 VCCIO (power), 43 VCCINT (power), 48 GNDINT (power), 49 GNDINT (power), 59 GNDINT (power), 66 VCCIO (power), 72 GNDINT (power), 76 VCCINT (power), 77 VCC_CKLK (power), 81 GND_CKLK (power), 82 GNDINT (power), 84 VCCIO (power), 91 GNDINT (power), 98 VCCIO (power), 106 VCCINT (power), 109 VCCINT (power), 110 VCCIO (power), 117 VCCINT (power), 118 VCCIO (power), 123 GNDINT (power), 124 GNDINT (power), 129 GNDINT (power), 130 GNDINT (power), 137 VCCINT (power), 138 VCCIO (power), 145 VCCINT (power), 146 VCCIO (power), 151 GNDINT (power), 152 GNDINT (power), 165 VCCIO (power), 171 GNDINT (power), 178 VCCIO (power), 181 VCCINT (power), 185 GNDINT (power), 188 GNDINT (power), 194 VCCIO (power), 201 GNDINT (power)

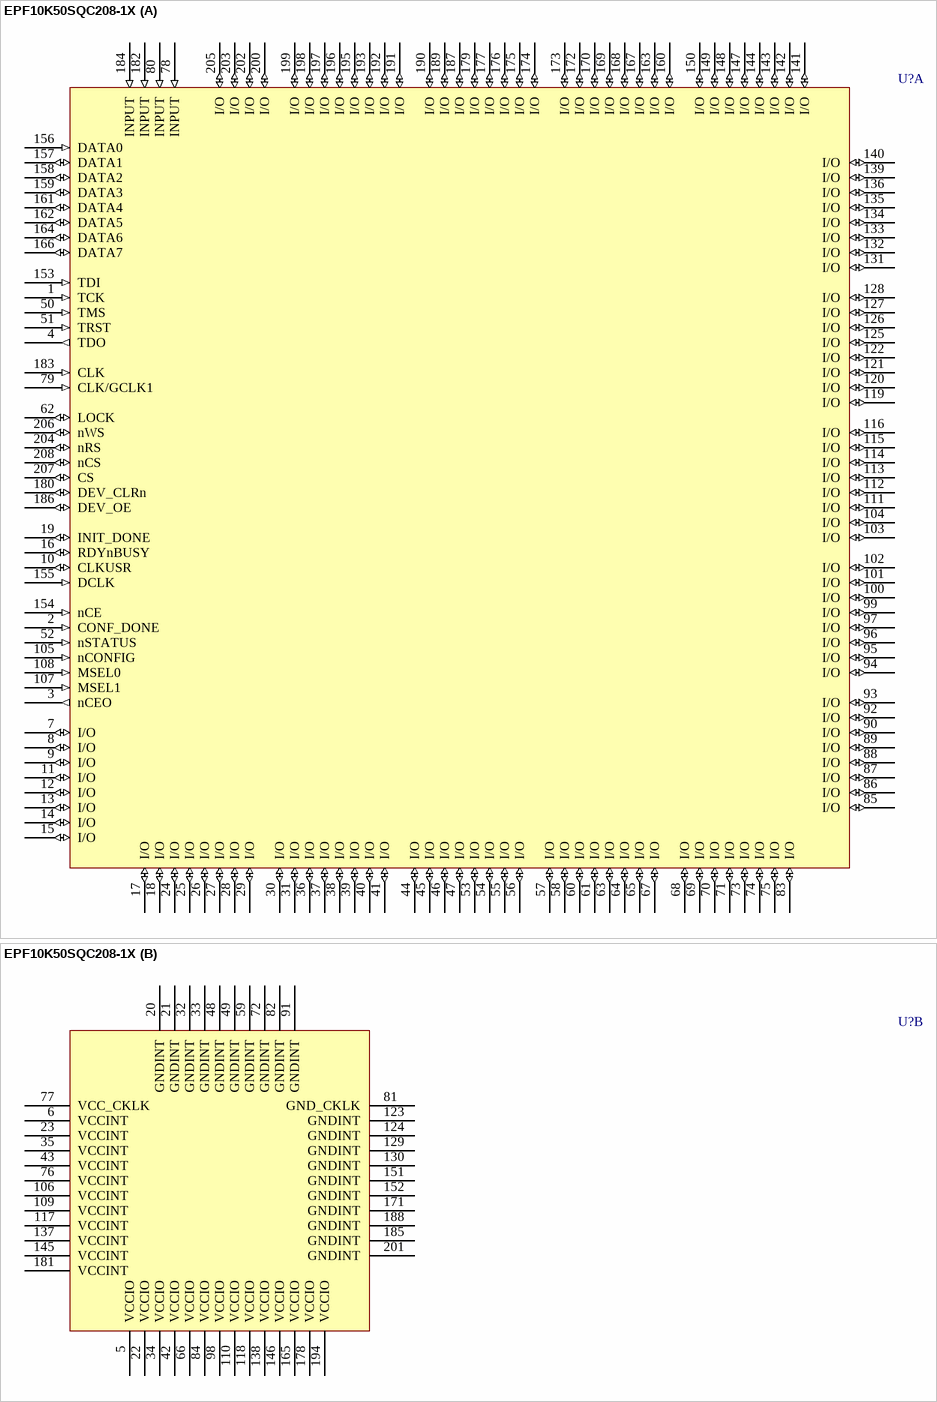
[diagram p142: symbol EPF10K50SQC208-1X]